# Altium schematic symbol library 3D_MIG_Controller.SCHLIB: 528 symbols (part 5 of 6)
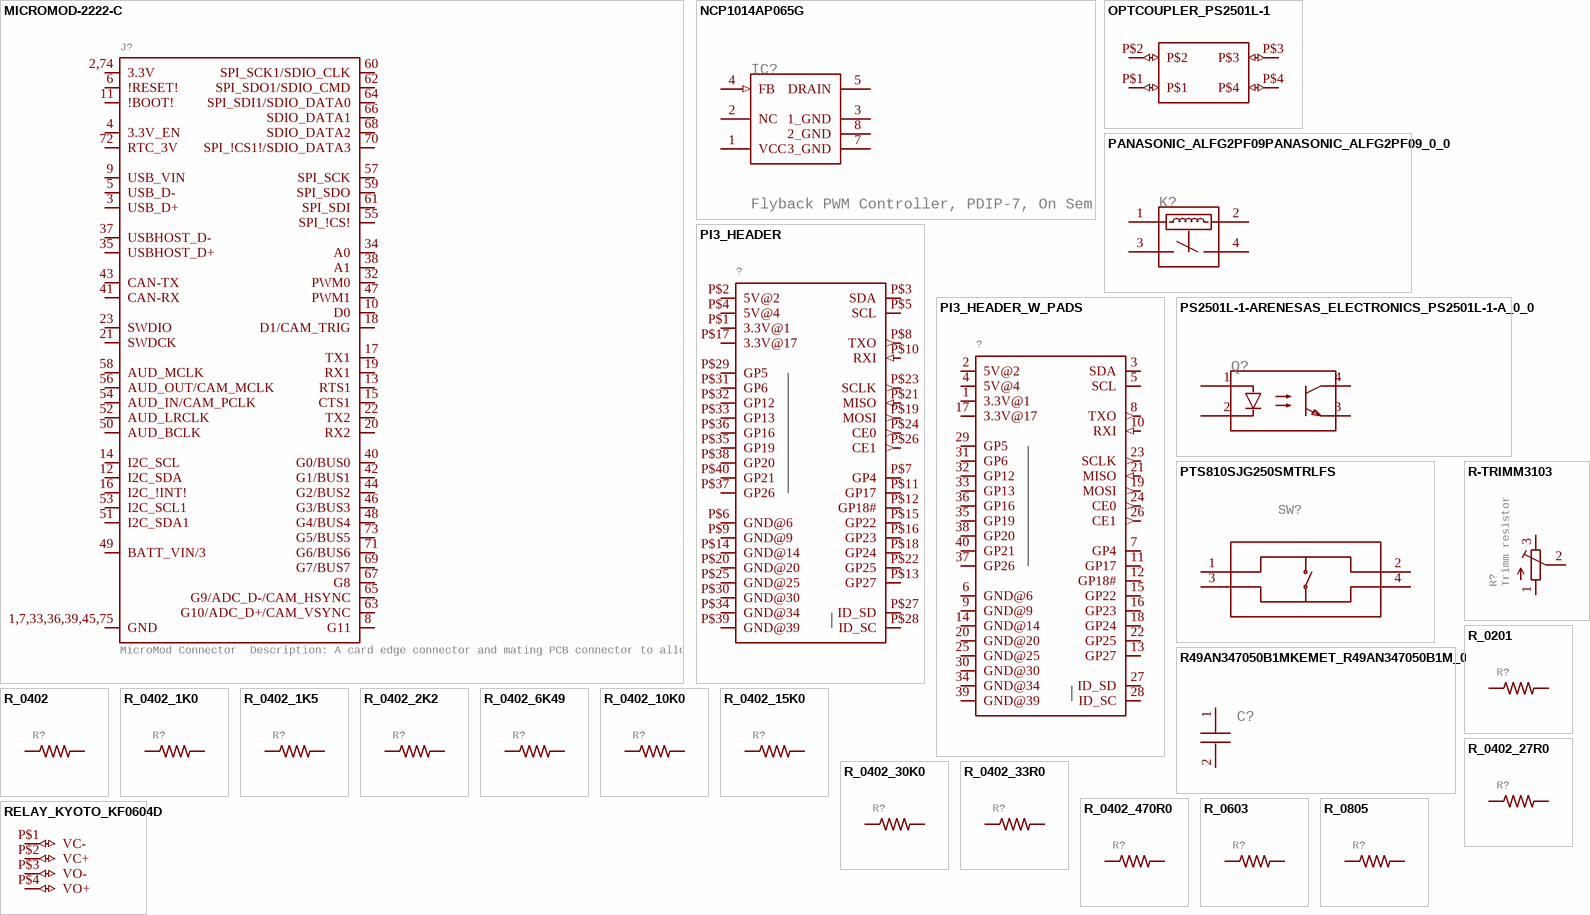
[diagram p36: symbols MICROMOD-2222-C to RELAY_KYOTO_KF0604D]

## PS2501L-1-ARENESAS_ELECTRONICS_PS2501L-1-A_0_0
designator Q?, comment Optocoupler DC-IN 1-CH Transistor DC-OUT 4-Pin PDIP SMD Magazine  (value not drawn)
GateName_1: G$0; SymbolName_1: OPTOCOUPLER_PS2501L; DeviceName: RENESAS_ELECTRONICS_PS2501L-1-A_0_0; DeviceSetName: PS2501L-1-A; AMBIENT_TEMPERATURE_RANGE_HIGH: +100°C; AMBIENT_TEMPERATURE_RANGE_LOW: -55°C; CENTROID_NOT_SPECIFIED: No; COLLECTOR_EMITTER_SATURATION_VOLTAGE: 0.3V; CURRENT_TRANSFER_RATIO: 300%; DEVICE_CLASS_L1: Optoelectronics; DEVICE_CLASS_L2: Optocouplers; DEVICE_CLASS_L3: unset; FORWARD_CURRENT: 10mA; FORWARD_VOLTAGE: 1.17V; ISOLATION_VOLTAGE: 5000V; LEAD_FREE: yes; MF: Renesas Electronics; MFG_PACKAGE_IDENT_REV: 0; PREFIX: Q; STANDOFF_HEIGHT: 0.05mm; VERIFICATION_VERSION: 0.0.0.1; LibraryName: 3D_MIG_Controller; Package: PS2501L-1-A; DATASHEET: https://www.renesas.com/eu/en/doc/YOUSYS/document/002/PN10225EJ05V0DS.pdf; DIGIKEY_DESCRIPTION: TRANS OPTOISOLATOR 5KV TRANS 4SMD; DIGIKEY_PART_NUMBER: 559-1003-ND; FOOTPRINT_URL: http://www.cel.com/pdf/productnotes/pn2009.pdf; HEIGHT: 4mm; MFG_PACKAGE_IDENT: PS2501L-1-A; MFG_PACKAGE_IDENT_DATE: 0; MOUSER_PART_NUMBER: 551-PS2501L-1-A; MPN: PS2501L-1-A; PACKAGE: SMD4; ROHS: yes; TEMPERATURE_RANGE_HIGH: +100°C; TEMPERATURE_RANGE_LOW: -55°C
footprint PS2501L-1-A
pins: 1 ANODE, 2 CATHODE, 3 EMITTER, 4 COLLECTOR

## PTS810SJG250SMTRLFS
designator SW?
GateName_1: A; SymbolName_1: SW_1SW_4P_2; DeviceSetName: PTS810SJG250SMTRLFS; BUILT_BY: EMA_Cory; VENDOR: C&K; LibraryName: 3D_MIG_Controller; Package: PTS810; COPYRIGHT: Copyright (C) 2018 Accelerated Designs. All rights reserved; DATASHEET: https://www.ckswitches.com/products/tactile/PTS810/#PTS810SJG250SMTRLFS; MANUFACTURER_PART_NUMBER: PTS810SJG250SMTRLFS
footprint PTS810
pins: 1, 2, 3, 4

## R49AN347050B1MKEMET_R49AN347050B1M_0_0
designator C?, comment 0.47ÂµF X Cap 330V 800V Polypropylene (PP), Metallized Radial  (value not drawn)
GateName_1: G$0; SymbolName_1: KEMET_R49AN347050B1M_0_0; DeviceSetName: R49AN347050B1M; CAPACITANCE: 0.47uF; CENTROID_NOT_SPECIFIED: No; DEVICE_CLASS_L1: Passive Components; DEVICE_CLASS_L2: Capacitors; DEVICE_CLASS_L3: Film Capacitors; LEAD_FREE: Yes; MF: Kemet; MFG_PACKAGE_IDENT: 0; PREFIX: C; TEMPERATURE_RANGE_HIGH: +110°C; TEMPERATURE_RANGE_LOW: -40°C; TOLERANCE: 20%; VAC_X_RATING: X1; VERIFICATION_VERSION: 0.0.0.3; DeviceName: KEMET_R49AN347050B1M_0_0; LibraryName: 3D_MIG_Controller; Package: KEMET_R49AN347050B1M_0; AUTOMOTIVE: No; DATASHEET: https://content.kemet.com/datasheets/KEM_F3099_R49_X1_330.pdf; DIGIKEY_DESCRIPTION: R49, FILM, METALLIZED POLYPROPYL; DIGIKEY_PART_NUMBER: 399-R49AN347050B1M-ND; FOOTPRINT_VARIANT_NAME_0: Recommended_Land_Pattern; HEIGHT: 18.61mm; MATERIAL: Polypropylene; MFG_PACKAGE_IDENT_DATE: 0; MFG_PACKAGE_IDENT_REV: 0; MOUSER_PART_NUMBER: 80-R49AN347050B1M; MPN: R49AN347050B1M; PACKAGE: RADIAL; ROHS: Yes; VOLTAGE_AC_RATING_X: 330V; VOLTAGE_RATING: 800V
footprint KEMET_R49AN347050B1M_0
pins: 1, 2

## R-TRIMM3103
designator R?, comment Trimm resistor
GateName_1: G$1; SymbolName_1: R-TRIM-1; DeviceName: 3103; DeviceSetName: R-TRIMM; LibraryName: 3D_MIG_Controller; Package: RTRIM3103
footprint RTRIM3103
pins: 1 A, 2 S, 3 E

## R_0201
designator R?
GateName_1: G$1; SymbolName_1: R-US; DeviceSetName: R_0201; LibraryName: 3D_MIG_Controller; Package: 0201
footprint 0201
pins: P$1 1, P$2 2

## R_0402
designator R?
GateName_1: G$1; SymbolName_1: R-US; DeviceSetName: R_0402; LibraryName: 3D_MIG_Controller; Package: 0402
footprint 0402
pins: P$1 1, P$2 2

## R_0402_1K0
designator R?
PARTNO: CRG0402J1K0; GateName_1: G$1; SymbolName_1: R-US; DeviceSetName: R_0402_1K0; LibraryName: 3D_MIG_Controller; Package: 0402
footprint 0402
pins: P$1 1, P$2 2

## R_0402_1K5
designator R?
PARTNO: RMCF0402JT1K50; GateName_1: G$1; SymbolName_1: R-US; DeviceSetName: R_0402_1K5; LibraryName: 3D_MIG_Controller; Package: 0402
footprint 0402
pins: P$1 1, P$2 2

## R_0402_2K2
designator R?
PARTNO: RMCF0402JT2K20; GateName_1: G$1; SymbolName_1: R-US; DeviceSetName: R_0402_2K2; LibraryName: 3D_MIG_Controller; Package: 0402
footprint 0402
pins: P$1 1, P$2 2

## R_0402_6K49
designator R?
PARTNO: RMCF0402FT6K49; GateName_1: G$1; SymbolName_1: R-US; DeviceSetName: R_0402_6K49; LibraryName: 3D_MIG_Controller; Package: 0402
footprint 0402
pins: P$1 1, P$2 2

## R_0402_10K0
designator R?
PARTNO: RMCF0402JT10K0; GateName_1: G$1; SymbolName_1: R-US; DeviceSetName: R_0402_10K0; LibraryName: 3D_MIG_Controller; Package: 0402
footprint 0402
pins: P$1 1, P$2 2

## R_0402_15K0
designator R?
PARTNO: RMCF0402JT15K0; GateName_1: G$1; SymbolName_1: R-US; DeviceSetName: R_0402_15K0; LibraryName: 3D_MIG_Controller; Package: 0402
footprint 0402
pins: P$1 1, P$2 2

## R_0402_27R0
designator R?
PARTNO: RMCF0402JT27R0; GateName_1: G$1; SymbolName_1: R-US; DeviceSetName: R_0402_27R0; LibraryName: 3D_MIG_Controller; Package: 0402
footprint 0402
pins: P$1 1, P$2 2

## R_0402_30K0
designator R?
PARTNO: RC0402JR-0730KL; GateName_1: G$1; SymbolName_1: R-US; DeviceSetName: R_0402_30K0; LibraryName: 3D_MIG_Controller; Package: 0402
footprint 0402
pins: P$1 1, P$2 2

## R_0402_33R0
designator R?
PARTNO: RMCF0402JT33R0; GateName_1: G$1; SymbolName_1: R-US; DeviceSetName: R_0402_33R0; LibraryName: 3D_MIG_Controller; Package: 0402
footprint 0402
pins: P$1 1, P$2 2

## R_0402_470R0
designator R?
PARTNO: RMCF0402JT470R; GateName_1: G$1; SymbolName_1: R-US; DeviceSetName: R_0402_470R0; LibraryName: 3D_MIG_Controller; Package: 0402
footprint 0402
pins: P$1 1, P$2 2

## R_0603
designator R?
GateName_1: G$1; SymbolName_1: R-US; DeviceSetName: R_0603; LibraryName: 3D_MIG_Controller; Package: 0603
footprint 0603
pins: 1, 2

## R_0805
designator R?
GateName_1: G$1; SymbolName_1: R-US; DeviceSetName: R_0805; LibraryName: 3D_MIG_Controller; Package: 0805
footprint 0805
pins: 1, 2

## RELAY_KYOTO_KF0604D
designator ?
GateName_1: G$1; SymbolName_1: RELAY_KYOTO_KF0604D; LibraryName: 3D_MIG_Controller; DeviceSetName: RELAY_KYOTO_KF0604D; Package: RELAY_KYOTO_KF0604D
footprint RELAY_KYOTO_KF0604D
pins: P$1 VC- (io), P$2 VC+ (io), P$3 VO- (io), P$4 VO+ (io)

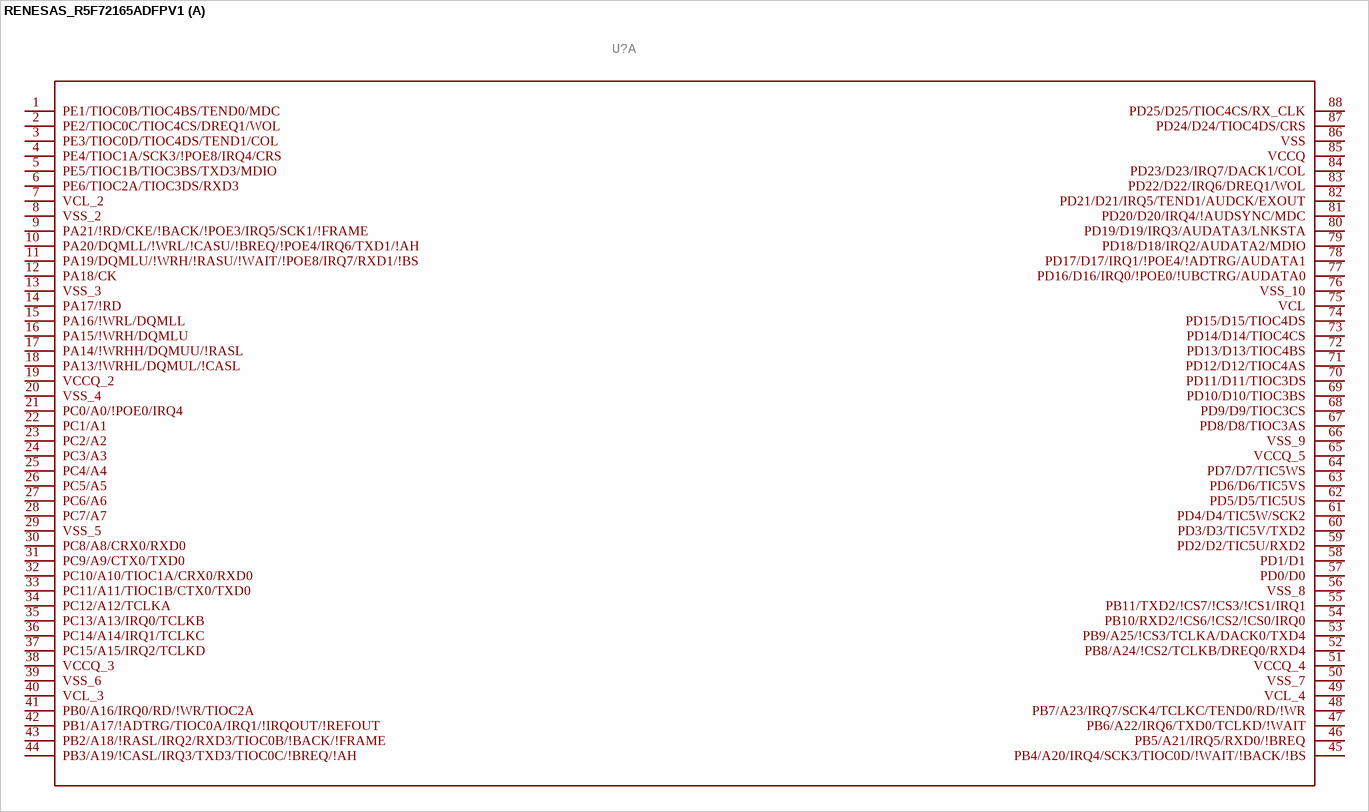
[diagram p16: symbol RENESAS_R5F72165ADFPV1]

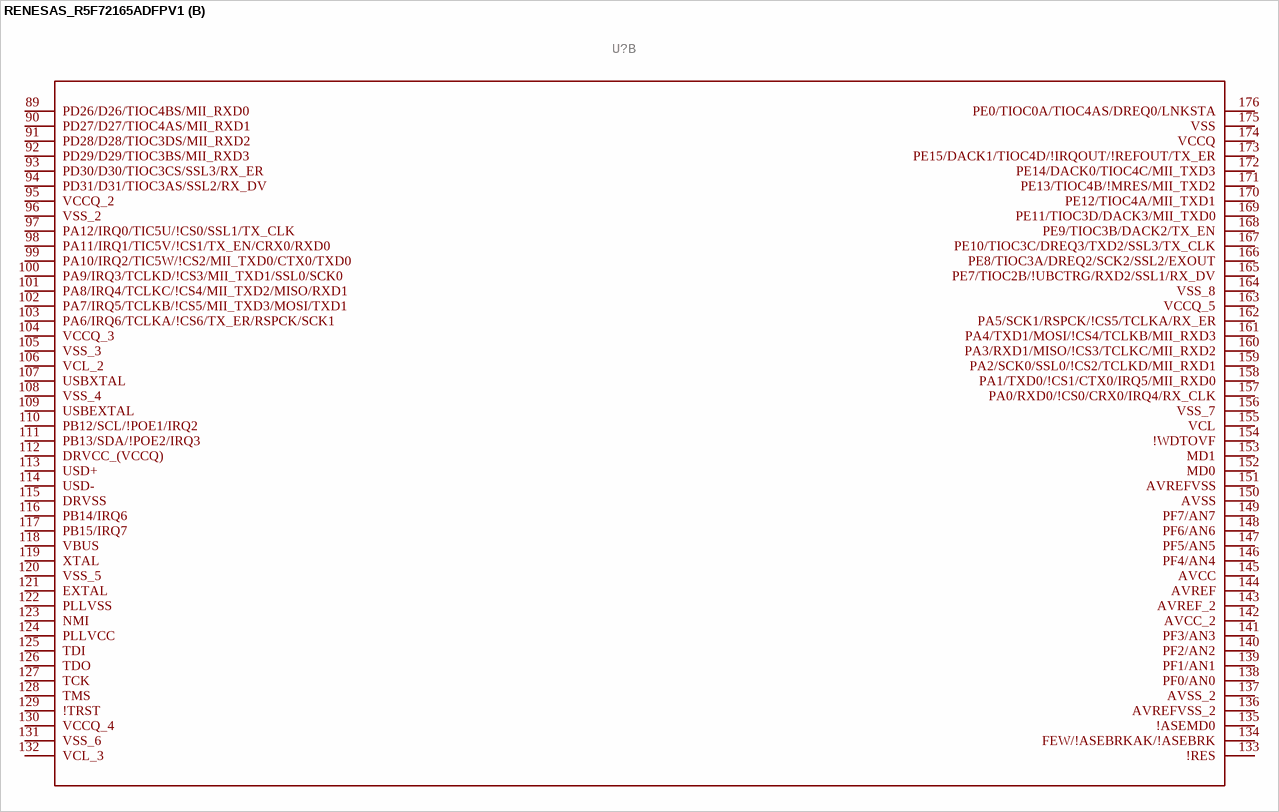
[diagram p17: symbol RENESAS_R5F72165ADFPV1]

## RENESAS_R5F72165ADFPV1
designator U?
MANUFACTURER_PART_NUMBER: R5F72165ADFP#V1; GateName_1: A; SymbolName_1: R5F72165ADFPV1_A; GateName_2: B; SymbolName_2: R5F72165ADFPV1_B; DeviceSetName: RENESAS_R5F72165ADFPV1; VENDOR: Renesas Electronics; LibraryName: 3D_MIG_Controller; Package: LQFP176_24X24
footprint LQFP176_24X24
part A pins: 1 PE1/TIOC0B/TIOC4BS/TEND0/MDC, 2 PE2/TIOC0C/TIOC4CS/DREQ1/WOL, 3 PE3/TIOC0D/TIOC4DS/TEND1/COL, 4 PE4/TIOC1A/SCK3/!POE8/IRQ4/CRS, 5 PE5/TIOC1B/TIOC3BS/TXD3/MDIO, 6 PE6/TIOC2A/TIOC3DS/RXD3, 7 VCL_2 (power), 8 VSS_2 (power), 9 PA21/!RD/CKE/!BACK/!POE3/IRQ5/SCK1/!FRAME, 10 PA20/DQMLL/!WRL/!CASU/!BREQ/!POE4/IRQ6/TXD1/!AH, 11 PA19/DQMLU/!WRH/!RASU/!WAIT/!POE8/IRQ7/RXD1/!BS, 12 PA18/CK, 13 VSS_3 (power), 14 PA17/!RD, 15 PA16/!WRL/DQMLL, 16 PA15/!WRH/DQMLU, 17 PA14/!WRHH/DQMUU/!RASL, 18 PA13/!WRHL/DQMUL/!CASL, 19 VCCQ_2 (power), 20 VSS_4 (power), 21 PC0/A0/!POE0/IRQ4, 22 PC1/A1, 23 PC2/A2, 24 PC3/A3, 25 PC4/A4, 26 PC5/A5, 27 PC6/A6, 28 PC7/A7, 29 VSS_5 (power), 30 PC8/A8/CRX0/RXD0, 31 PC9/A9/CTX0/TXD0, 32 PC10/A10/TIOC1A/CRX0/RXD0, 33 PC11/A11/TIOC1B/CTX0/TXD0, 34 PC12/A12/TCLKA, 35 PC13/A13/IRQ0/TCLKB, 36 PC14/A14/IRQ1/TCLKC, 37 PC15/A15/IRQ2/TCLKD, 38 VCCQ_3 (power), 39 VSS_6 (power), 40 VCL_3 (power), 41 PB0/A16/IRQ0/RD/!WR/TIOC2A, 42 PB1/A17/!ADTRG/TIOC0A/IRQ1/!IRQOUT/!REFOUT, 43 PB2/A18/!RASL/IRQ2/RXD3/TIOC0B/!BACK/!FRAME, 44 PB3/A19/!CASL/IRQ3/TXD3/TIOC0C/!BREQ/!AH, 45 PB4/A20/IRQ4/SCK3/TIOC0D/!WAIT/!BACK/!BS, 46 PB5/A21/IRQ5/RXD0/!BREQ, 47 PB6/A22/IRQ6/TXD0/TCLKD/!WAIT, 48 PB7/A23/IRQ7/SCK4/TCLKC/TEND0/RD/!WR, 49 VCL_4 (power), 50 VSS_7 (power), 51 VCCQ_4 (power), 52 PB8/A24/!CS2/TCLKB/DREQ0/RXD4, 53 PB9/A25/!CS3/TCLKA/DACK0/TXD4, 54 PB10/RXD2/!CS6/!CS2/!CS0/IRQ0, 55 PB11/TXD2/!CS7/!CS3/!CS1/IRQ1, 56 VSS_8 (power), 57 PD0/D0, 58 PD1/D1, 59 PD2/D2/TIC5U/RXD2, 60 PD3/D3/TIC5V/TXD2, 61 PD4/D4/TIC5W/SCK2, 62 PD5/D5/TIC5US, 63 PD6/D6/TIC5VS, 64 PD7/D7/TIC5WS, 65 VCCQ_5 (power), 66 VSS_9 (power), 67 PD8/D8/TIOC3AS, 68 PD9/D9/TIOC3CS, 69 PD10/D10/TIOC3BS, 70 PD11/D11/TIOC3DS, 71 PD12/D12/TIOC4AS, 72 PD13/D13/TIOC4BS, 73 PD14/D14/TIOC4CS, 74 PD15/D15/TIOC4DS, 75 VCL (power), 76 VSS_10 (power), 77 PD16/D16/IRQ0/!POE0/!UBCTRG/AUDATA0, 78 PD17/D17/IRQ1/!POE4/!ADTRG/AUDATA1, 79 PD18/D18/IRQ2/AUDATA2/MDIO, 80 PD19/D19/IRQ3/AUDATA3/LNKSTA, 81 PD20/D20/IRQ4/!AUDSYNC/MDC, 82 PD21/D21/IRQ5/TEND1/AUDCK/EXOUT, 83 PD22/D22/IRQ6/DREQ1/WOL, 84 PD23/D23/IRQ7/DACK1/COL, 85 VCCQ (power), 86 VSS (power), 87 PD24/D24/TIOC4DS/CRS, 88 PD25/D25/TIOC4CS/RX_CLK
part B pins: 89 PD26/D26/TIOC4BS/MII_RXD0, 90 PD27/D27/TIOC4AS/MII_RXD1, 91 PD28/D28/TIOC3DS/MII_RXD2, 92 PD29/D29/TIOC3BS/MII_RXD3, 93 PD30/D30/TIOC3CS/SSL3/RX_ER, 94 PD31/D31/TIOC3AS/SSL2/RX_DV, 95 VCCQ_2 (power), 96 VSS_2 (power), 97 PA12/IRQ0/TIC5U/!CS0/SSL1/TX_CLK, 98 PA11/IRQ1/TIC5V/!CS1/TX_EN/CRX0/RXD0, 99 PA10/IRQ2/TIC5W/!CS2/MII_TXD0/CTX0/TXD0, 100 PA9/IRQ3/TCLKD/!CS3/MII_TXD1/SSL0/SCK0, 101 PA8/IRQ4/TCLKC/!CS4/MII_TXD2/MISO/RXD1, 102 PA7/IRQ5/TCLKB/!CS5/MII_TXD3/MOSI/TXD1, 103 PA6/IRQ6/TCLKA/!CS6/TX_ER/RSPCK/SCK1, 104 VCCQ_3 (power), 105 VSS_3 (power), 106 VCL_2 (power), 107 USBXTAL, 108 VSS_4 (power), 109 USBEXTAL, 110 PB12/SCL/!POE1/IRQ2, 111 PB13/SDA/!POE2/IRQ3, 112 DRVCC_(VCCQ) (power), 113 USD+, 114 USD-, 115 DRVSS (power), 116 PB14/IRQ6, 117 PB15/IRQ7, 118 VBUS (power), 119 XTAL, 120 VSS_5 (power), 121 EXTAL, 122 PLLVSS (power), 123 NMI, 124 PLLVCC (power), 125 TDI, 126 TDO, 127 TCK, 128 TMS, 129 !TRST, 130 VCCQ_4 (power), 131 VSS_6 (power), 132 VCL_3 (power), 133 !RES, 134 FEW/!ASEBRKAK/!ASEBRK, 135 !ASEMD0, 136 AVREFVSS_2 (power), 137 AVSS_2 (power), 138 PF0/AN0, 139 PF1/AN1, 140 PF2/AN2, 141 PF3/AN3, 142 AVCC_2 (power), 143 AVREF_2 (power), 144 AVREF (power), 145 AVCC (power), 146 PF4/AN4, 147 PF5/AN5, 148 PF6/AN6, 149 PF7/AN7, 150 AVSS (power), 151 AVREFVSS (power), 152 MD0, 153 MD1, 154 !WDTOVF, 155 VCL (power), 156 VSS_7 (power), 157 PA0/RXD0/!CS0/CRX0/IRQ4/RX_CLK, 158 PA1/TXD0/!CS1/CTX0/IRQ5/MII_RXD0, 159 PA2/SCK0/SSL0/!CS2/TCLKD/MII_RXD1, 160 PA3/RXD1/MISO/!CS3/TCLKC/MII_RXD2, 161 PA4/TXD1/MOSI/!CS4/TCLKB/MII_RXD3, 162 PA5/SCK1/RSPCK/!CS5/TCLKA/RX_ER, 163 VCCQ_5 (power), 164 VSS_8 (power), 165 PE7/TIOC2B/!UBCTRG/RXD2/SSL1/RX_DV, 166 PE8/TIOC3A/DREQ2/SCK2/SSL2/EXOUT, 167 PE10/TIOC3C/DREQ3/TXD2/SSL3/TX_CLK, 168 PE9/TIOC3B/DACK2/TX_EN, 169 PE11/TIOC3D/DACK3/MII_TXD0, 170 PE12/TIOC4A/MII_TXD1, 171 PE13/TIOC4B/!MRES/MII_TXD2, 172 PE14/DACK0/TIOC4C/MII_TXD3, 173 PE15/DACK1/TIOC4D/!IRQOUT/!REFOUT/TX_ER, 174 VCCQ (power), 175 VSS (power), 176 PE0/TIOC0A/TIOC4AS/DREQ0/LNKSTA

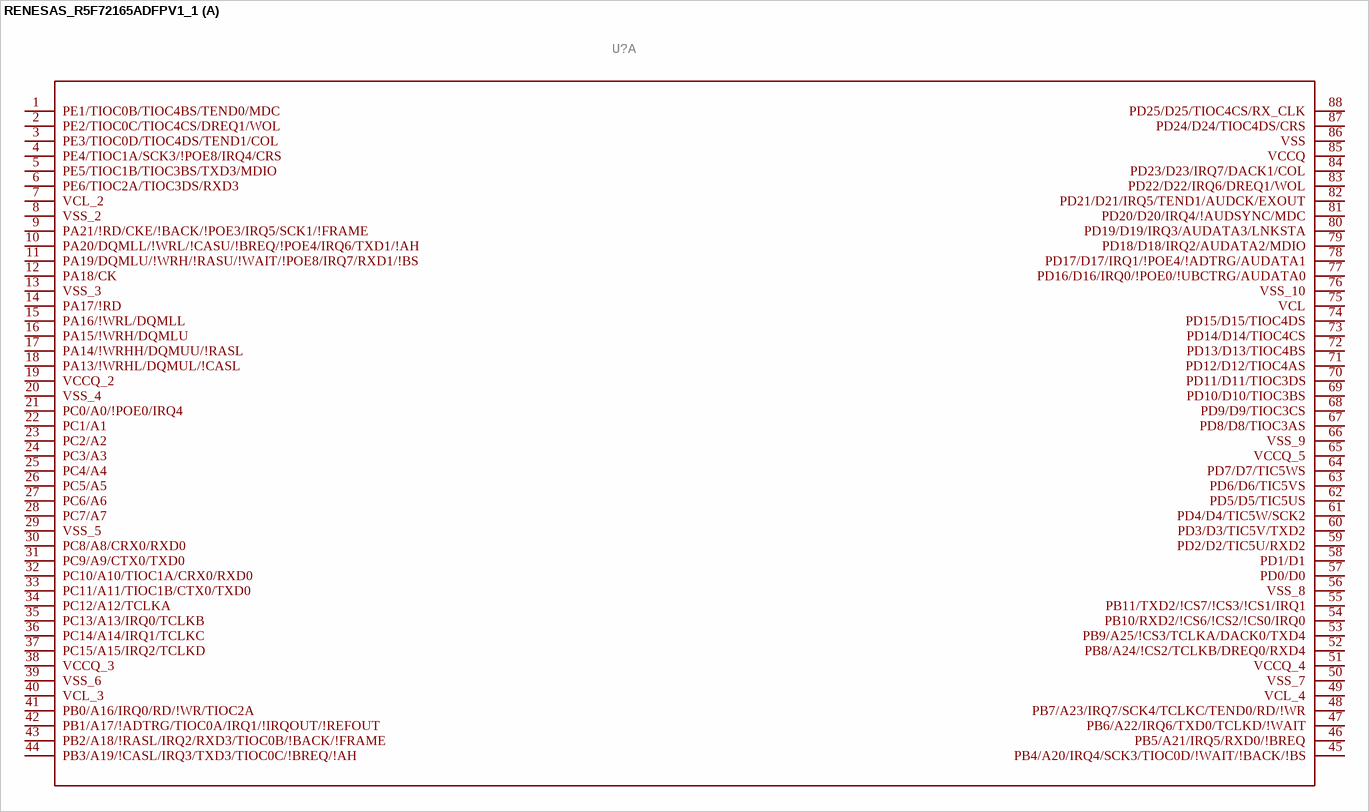
[diagram p18: symbol RENESAS_R5F72165ADFPV1_1]

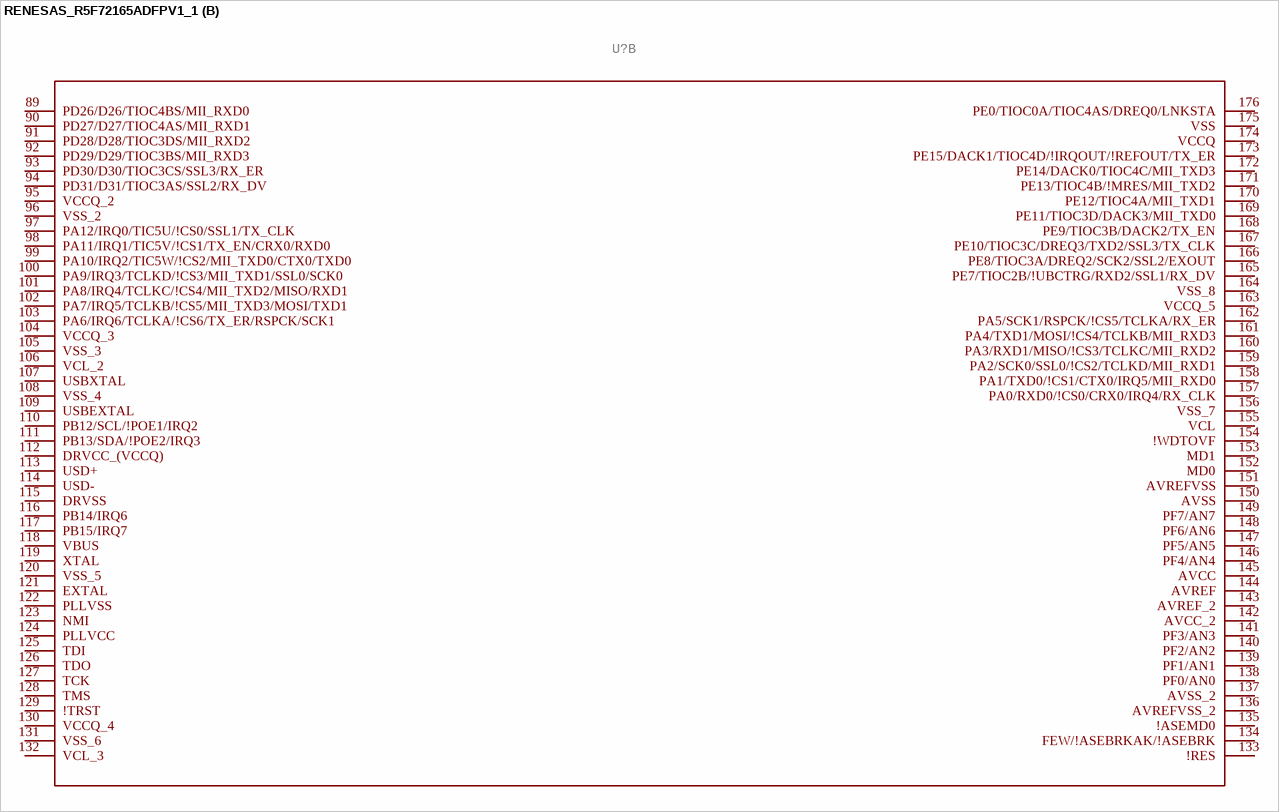
[diagram p19: symbol RENESAS_R5F72165ADFPV1_1]

## RENESAS_R5F72165ADFPV1_1
designator U?
MANUFACTURER_PART_NUMBER: R5F72165ADFP#V1; GateName_1: A; SymbolName_1: R5F72165ADFPV1_A; GateName_2: B; SymbolName_2: R5F72165ADFPV1_B; DeviceSetName: RENESAS_R5F72165ADFPV1; VENDOR: Renesas Electronics; LibraryName: 3D_MIG_Controller; Package: LQFP176_24X24
footprint LQFP176_24X24
part A pins: 1 PE1/TIOC0B/TIOC4BS/TEND0/MDC, 2 PE2/TIOC0C/TIOC4CS/DREQ1/WOL, 3 PE3/TIOC0D/TIOC4DS/TEND1/COL, 4 PE4/TIOC1A/SCK3/!POE8/IRQ4/CRS, 5 PE5/TIOC1B/TIOC3BS/TXD3/MDIO, 6 PE6/TIOC2A/TIOC3DS/RXD3, 7 VCL_2 (power), 8 VSS_2 (power), 9 PA21/!RD/CKE/!BACK/!POE3/IRQ5/SCK1/!FRAME, 10 PA20/DQMLL/!WRL/!CASU/!BREQ/!POE4/IRQ6/TXD1/!AH, 11 PA19/DQMLU/!WRH/!RASU/!WAIT/!POE8/IRQ7/RXD1/!BS, 12 PA18/CK, 13 VSS_3 (power), 14 PA17/!RD, 15 PA16/!WRL/DQMLL, 16 PA15/!WRH/DQMLU, 17 PA14/!WRHH/DQMUU/!RASL, 18 PA13/!WRHL/DQMUL/!CASL, 19 VCCQ_2 (power), 20 VSS_4 (power), 21 PC0/A0/!POE0/IRQ4, 22 PC1/A1, 23 PC2/A2, 24 PC3/A3, 25 PC4/A4, 26 PC5/A5, 27 PC6/A6, 28 PC7/A7, 29 VSS_5 (power), 30 PC8/A8/CRX0/RXD0, 31 PC9/A9/CTX0/TXD0, 32 PC10/A10/TIOC1A/CRX0/RXD0, 33 PC11/A11/TIOC1B/CTX0/TXD0, 34 PC12/A12/TCLKA, 35 PC13/A13/IRQ0/TCLKB, 36 PC14/A14/IRQ1/TCLKC, 37 PC15/A15/IRQ2/TCLKD, 38 VCCQ_3 (power), 39 VSS_6 (power), 40 VCL_3 (power), 41 PB0/A16/IRQ0/RD/!WR/TIOC2A, 42 PB1/A17/!ADTRG/TIOC0A/IRQ1/!IRQOUT/!REFOUT, 43 PB2/A18/!RASL/IRQ2/RXD3/TIOC0B/!BACK/!FRAME, 44 PB3/A19/!CASL/IRQ3/TXD3/TIOC0C/!BREQ/!AH, 45 PB4/A20/IRQ4/SCK3/TIOC0D/!WAIT/!BACK/!BS, 46 PB5/A21/IRQ5/RXD0/!BREQ, 47 PB6/A22/IRQ6/TXD0/TCLKD/!WAIT, 48 PB7/A23/IRQ7/SCK4/TCLKC/TEND0/RD/!WR, 49 VCL_4 (power), 50 VSS_7 (power), 51 VCCQ_4 (power), 52 PB8/A24/!CS2/TCLKB/DREQ0/RXD4, 53 PB9/A25/!CS3/TCLKA/DACK0/TXD4, 54 PB10/RXD2/!CS6/!CS2/!CS0/IRQ0, 55 PB11/TXD2/!CS7/!CS3/!CS1/IRQ1, 56 VSS_8 (power), 57 PD0/D0, 58 PD1/D1, 59 PD2/D2/TIC5U/RXD2, 60 PD3/D3/TIC5V/TXD2, 61 PD4/D4/TIC5W/SCK2, 62 PD5/D5/TIC5US, 63 PD6/D6/TIC5VS, 64 PD7/D7/TIC5WS, 65 VCCQ_5 (power), 66 VSS_9 (power), 67 PD8/D8/TIOC3AS, 68 PD9/D9/TIOC3CS, 69 PD10/D10/TIOC3BS, 70 PD11/D11/TIOC3DS, 71 PD12/D12/TIOC4AS, 72 PD13/D13/TIOC4BS, 73 PD14/D14/TIOC4CS, 74 PD15/D15/TIOC4DS, 75 VCL (power), 76 VSS_10 (power), 77 PD16/D16/IRQ0/!POE0/!UBCTRG/AUDATA0, 78 PD17/D17/IRQ1/!POE4/!ADTRG/AUDATA1, 79 PD18/D18/IRQ2/AUDATA2/MDIO, 80 PD19/D19/IRQ3/AUDATA3/LNKSTA, 81 PD20/D20/IRQ4/!AUDSYNC/MDC, 82 PD21/D21/IRQ5/TEND1/AUDCK/EXOUT, 83 PD22/D22/IRQ6/DREQ1/WOL, 84 PD23/D23/IRQ7/DACK1/COL, 85 VCCQ (power), 86 VSS (power), 87 PD24/D24/TIOC4DS/CRS, 88 PD25/D25/TIOC4CS/RX_CLK
part B pins: 89 PD26/D26/TIOC4BS/MII_RXD0, 90 PD27/D27/TIOC4AS/MII_RXD1, 91 PD28/D28/TIOC3DS/MII_RXD2, 92 PD29/D29/TIOC3BS/MII_RXD3, 93 PD30/D30/TIOC3CS/SSL3/RX_ER, 94 PD31/D31/TIOC3AS/SSL2/RX_DV, 95 VCCQ_2 (power), 96 VSS_2 (power), 97 PA12/IRQ0/TIC5U/!CS0/SSL1/TX_CLK, 98 PA11/IRQ1/TIC5V/!CS1/TX_EN/CRX0/RXD0, 99 PA10/IRQ2/TIC5W/!CS2/MII_TXD0/CTX0/TXD0, 100 PA9/IRQ3/TCLKD/!CS3/MII_TXD1/SSL0/SCK0, 101 PA8/IRQ4/TCLKC/!CS4/MII_TXD2/MISO/RXD1, 102 PA7/IRQ5/TCLKB/!CS5/MII_TXD3/MOSI/TXD1, 103 PA6/IRQ6/TCLKA/!CS6/TX_ER/RSPCK/SCK1, 104 VCCQ_3 (power), 105 VSS_3 (power), 106 VCL_2 (power), 107 USBXTAL, 108 VSS_4 (power), 109 USBEXTAL, 110 PB12/SCL/!POE1/IRQ2, 111 PB13/SDA/!POE2/IRQ3, 112 DRVCC_(VCCQ) (power), 113 USD+, 114 USD-, 115 DRVSS (power), 116 PB14/IRQ6, 117 PB15/IRQ7, 118 VBUS (power), 119 XTAL, 120 VSS_5 (power), 121 EXTAL, 122 PLLVSS (power), 123 NMI, 124 PLLVCC (power), 125 TDI, 126 TDO, 127 TCK, 128 TMS, 129 !TRST, 130 VCCQ_4 (power), 131 VSS_6 (power), 132 VCL_3 (power), 133 !RES, 134 FEW/!ASEBRKAK/!ASEBRK, 135 !ASEMD0, 136 AVREFVSS_2 (power), 137 AVSS_2 (power), 138 PF0/AN0, 139 PF1/AN1, 140 PF2/AN2, 141 PF3/AN3, 142 AVCC_2 (power), 143 AVREF_2 (power), 144 AVREF (power), 145 AVCC (power), 146 PF4/AN4, 147 PF5/AN5, 148 PF6/AN6, 149 PF7/AN7, 150 AVSS (power), 151 AVREFVSS (power), 152 MD0, 153 MD1, 154 !WDTOVF, 155 VCL (power), 156 VSS_7 (power), 157 PA0/RXD0/!CS0/CRX0/IRQ4/RX_CLK, 158 PA1/TXD0/!CS1/CTX0/IRQ5/MII_RXD0, 159 PA2/SCK0/SSL0/!CS2/TCLKD/MII_RXD1, 160 PA3/RXD1/MISO/!CS3/TCLKC/MII_RXD2, 161 PA4/TXD1/MOSI/!CS4/TCLKB/MII_RXD3, 162 PA5/SCK1/RSPCK/!CS5/TCLKA/RX_ER, 163 VCCQ_5 (power), 164 VSS_8 (power), 165 PE7/TIOC2B/!UBCTRG/RXD2/SSL1/RX_DV, 166 PE8/TIOC3A/DREQ2/SCK2/SSL2/EXOUT, 167 PE10/TIOC3C/DREQ3/TXD2/SSL3/TX_CLK, 168 PE9/TIOC3B/DACK2/TX_EN, 169 PE11/TIOC3D/DACK3/MII_TXD0, 170 PE12/TIOC4A/MII_TXD1, 171 PE13/TIOC4B/!MRES/MII_TXD2, 172 PE14/DACK0/TIOC4C/MII_TXD3, 173 PE15/DACK1/TIOC4D/!IRQOUT/!REFOUT/TX_ER, 174 VCCQ (power), 175 VSS (power), 176 PE0/TIOC0A/TIOC4AS/DREQ0/LNKSTA

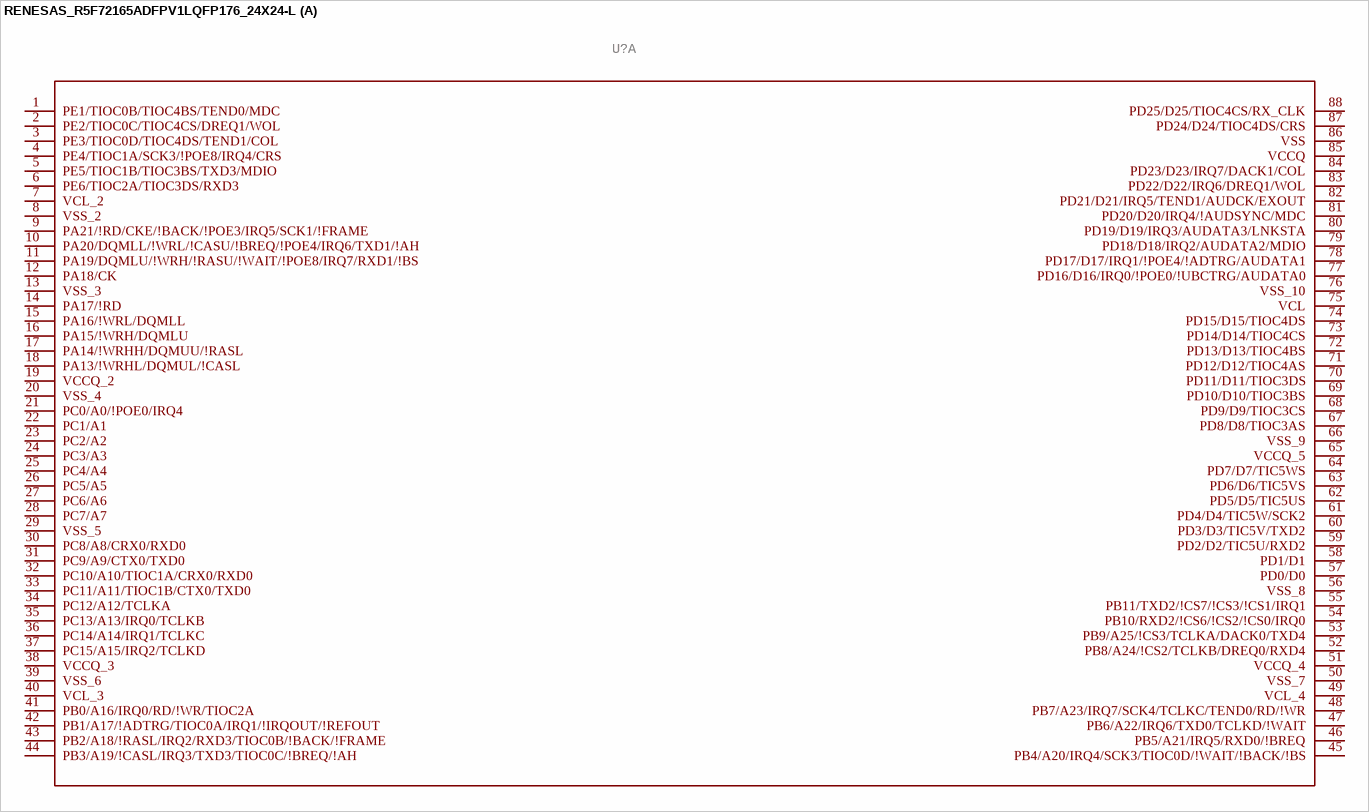
[diagram p20: symbol RENESAS_R5F72165ADFPV1LQFP176_24X24-L]

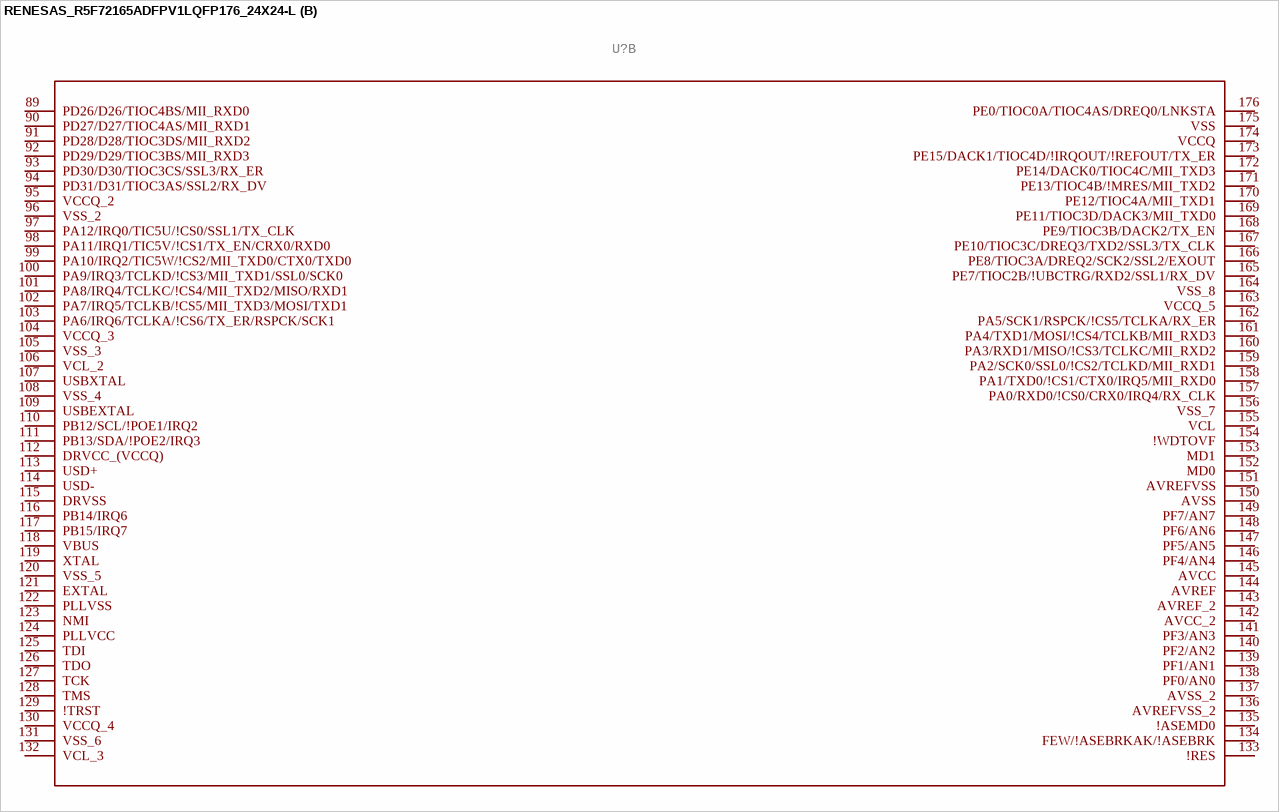
[diagram p21: symbol RENESAS_R5F72165ADFPV1LQFP176_24X24-L]

## RENESAS_R5F72165ADFPV1LQFP176_24X24-L
designator U?
MANUFACTURER_PART_NUMBER: R5F72165ADFP#V1; GateName_1: A; SymbolName_1: R5F72165ADFPV1_A; GateName_2: B; SymbolName_2: R5F72165ADFPV1_B; DeviceName: LQFP176_24X24-L; DeviceSetName: RENESAS_R5F72165ADFPV1; VENDOR: Renesas Electronics; LibraryName: 3D_MIG_Controller; Package: LQFP176_24X24-L
footprint LQFP176_24X24-L
part A pins: 1 PE1/TIOC0B/TIOC4BS/TEND0/MDC, 2 PE2/TIOC0C/TIOC4CS/DREQ1/WOL, 3 PE3/TIOC0D/TIOC4DS/TEND1/COL, 4 PE4/TIOC1A/SCK3/!POE8/IRQ4/CRS, 5 PE5/TIOC1B/TIOC3BS/TXD3/MDIO, 6 PE6/TIOC2A/TIOC3DS/RXD3, 7 VCL_2 (power), 8 VSS_2 (power), 9 PA21/!RD/CKE/!BACK/!POE3/IRQ5/SCK1/!FRAME, 10 PA20/DQMLL/!WRL/!CASU/!BREQ/!POE4/IRQ6/TXD1/!AH, 11 PA19/DQMLU/!WRH/!RASU/!WAIT/!POE8/IRQ7/RXD1/!BS, 12 PA18/CK, 13 VSS_3 (power), 14 PA17/!RD, 15 PA16/!WRL/DQMLL, 16 PA15/!WRH/DQMLU, 17 PA14/!WRHH/DQMUU/!RASL, 18 PA13/!WRHL/DQMUL/!CASL, 19 VCCQ_2 (power), 20 VSS_4 (power), 21 PC0/A0/!POE0/IRQ4, 22 PC1/A1, 23 PC2/A2, 24 PC3/A3, 25 PC4/A4, 26 PC5/A5, 27 PC6/A6, 28 PC7/A7, 29 VSS_5 (power), 30 PC8/A8/CRX0/RXD0, 31 PC9/A9/CTX0/TXD0, 32 PC10/A10/TIOC1A/CRX0/RXD0, 33 PC11/A11/TIOC1B/CTX0/TXD0, 34 PC12/A12/TCLKA, 35 PC13/A13/IRQ0/TCLKB, 36 PC14/A14/IRQ1/TCLKC, 37 PC15/A15/IRQ2/TCLKD, 38 VCCQ_3 (power), 39 VSS_6 (power), 40 VCL_3 (power), 41 PB0/A16/IRQ0/RD/!WR/TIOC2A, 42 PB1/A17/!ADTRG/TIOC0A/IRQ1/!IRQOUT/!REFOUT, 43 PB2/A18/!RASL/IRQ2/RXD3/TIOC0B/!BACK/!FRAME, 44 PB3/A19/!CASL/IRQ3/TXD3/TIOC0C/!BREQ/!AH, 45 PB4/A20/IRQ4/SCK3/TIOC0D/!WAIT/!BACK/!BS, 46 PB5/A21/IRQ5/RXD0/!BREQ, 47 PB6/A22/IRQ6/TXD0/TCLKD/!WAIT, 48 PB7/A23/IRQ7/SCK4/TCLKC/TEND0/RD/!WR, 49 VCL_4 (power), 50 VSS_7 (power), 51 VCCQ_4 (power), 52 PB8/A24/!CS2/TCLKB/DREQ0/RXD4, 53 PB9/A25/!CS3/TCLKA/DACK0/TXD4, 54 PB10/RXD2/!CS6/!CS2/!CS0/IRQ0, 55 PB11/TXD2/!CS7/!CS3/!CS1/IRQ1, 56 VSS_8 (power), 57 PD0/D0, 58 PD1/D1, 59 PD2/D2/TIC5U/RXD2, 60 PD3/D3/TIC5V/TXD2, 61 PD4/D4/TIC5W/SCK2, 62 PD5/D5/TIC5US, 63 PD6/D6/TIC5VS, 64 PD7/D7/TIC5WS, 65 VCCQ_5 (power), 66 VSS_9 (power), 67 PD8/D8/TIOC3AS, 68 PD9/D9/TIOC3CS, 69 PD10/D10/TIOC3BS, 70 PD11/D11/TIOC3DS, 71 PD12/D12/TIOC4AS, 72 PD13/D13/TIOC4BS, 73 PD14/D14/TIOC4CS, 74 PD15/D15/TIOC4DS, 75 VCL (power), 76 VSS_10 (power), 77 PD16/D16/IRQ0/!POE0/!UBCTRG/AUDATA0, 78 PD17/D17/IRQ1/!POE4/!ADTRG/AUDATA1, 79 PD18/D18/IRQ2/AUDATA2/MDIO, 80 PD19/D19/IRQ3/AUDATA3/LNKSTA, 81 PD20/D20/IRQ4/!AUDSYNC/MDC, 82 PD21/D21/IRQ5/TEND1/AUDCK/EXOUT, 83 PD22/D22/IRQ6/DREQ1/WOL, 84 PD23/D23/IRQ7/DACK1/COL, 85 VCCQ (power), 86 VSS (power), 87 PD24/D24/TIOC4DS/CRS, 88 PD25/D25/TIOC4CS/RX_CLK
part B pins: 89 PD26/D26/TIOC4BS/MII_RXD0, 90 PD27/D27/TIOC4AS/MII_RXD1, 91 PD28/D28/TIOC3DS/MII_RXD2, 92 PD29/D29/TIOC3BS/MII_RXD3, 93 PD30/D30/TIOC3CS/SSL3/RX_ER, 94 PD31/D31/TIOC3AS/SSL2/RX_DV, 95 VCCQ_2 (power), 96 VSS_2 (power), 97 PA12/IRQ0/TIC5U/!CS0/SSL1/TX_CLK, 98 PA11/IRQ1/TIC5V/!CS1/TX_EN/CRX0/RXD0, 99 PA10/IRQ2/TIC5W/!CS2/MII_TXD0/CTX0/TXD0, 100 PA9/IRQ3/TCLKD/!CS3/MII_TXD1/SSL0/SCK0, 101 PA8/IRQ4/TCLKC/!CS4/MII_TXD2/MISO/RXD1, 102 PA7/IRQ5/TCLKB/!CS5/MII_TXD3/MOSI/TXD1, 103 PA6/IRQ6/TCLKA/!CS6/TX_ER/RSPCK/SCK1, 104 VCCQ_3 (power), 105 VSS_3 (power), 106 VCL_2 (power), 107 USBXTAL, 108 VSS_4 (power), 109 USBEXTAL, 110 PB12/SCL/!POE1/IRQ2, 111 PB13/SDA/!POE2/IRQ3, 112 DRVCC_(VCCQ) (power), 113 USD+, 114 USD-, 115 DRVSS (power), 116 PB14/IRQ6, 117 PB15/IRQ7, 118 VBUS (power), 119 XTAL, 120 VSS_5 (power), 121 EXTAL, 122 PLLVSS (power), 123 NMI, 124 PLLVCC (power), 125 TDI, 126 TDO, 127 TCK, 128 TMS, 129 !TRST, 130 VCCQ_4 (power), 131 VSS_6 (power), 132 VCL_3 (power), 133 !RES, 134 FEW/!ASEBRKAK/!ASEBRK, 135 !ASEMD0, 136 AVREFVSS_2 (power), 137 AVSS_2 (power), 138 PF0/AN0, 139 PF1/AN1, 140 PF2/AN2, 141 PF3/AN3, 142 AVCC_2 (power), 143 AVREF_2 (power), 144 AVREF (power), 145 AVCC (power), 146 PF4/AN4, 147 PF5/AN5, 148 PF6/AN6, 149 PF7/AN7, 150 AVSS (power), 151 AVREFVSS (power), 152 MD0, 153 MD1, 154 !WDTOVF, 155 VCL (power), 156 VSS_7 (power), 157 PA0/RXD0/!CS0/CRX0/IRQ4/RX_CLK, 158 PA1/TXD0/!CS1/CTX0/IRQ5/MII_RXD0, 159 PA2/SCK0/SSL0/!CS2/TCLKD/MII_RXD1, 160 PA3/RXD1/MISO/!CS3/TCLKC/MII_RXD2, 161 PA4/TXD1/MOSI/!CS4/TCLKB/MII_RXD3, 162 PA5/SCK1/RSPCK/!CS5/TCLKA/RX_ER, 163 VCCQ_5 (power), 164 VSS_8 (power), 165 PE7/TIOC2B/!UBCTRG/RXD2/SSL1/RX_DV, 166 PE8/TIOC3A/DREQ2/SCK2/SSL2/EXOUT, 167 PE10/TIOC3C/DREQ3/TXD2/SSL3/TX_CLK, 168 PE9/TIOC3B/DACK2/TX_EN, 169 PE11/TIOC3D/DACK3/MII_TXD0, 170 PE12/TIOC4A/MII_TXD1, 171 PE13/TIOC4B/!MRES/MII_TXD2, 172 PE14/DACK0/TIOC4C/MII_TXD3, 173 PE15/DACK1/TIOC4D/!IRQOUT/!REFOUT/TX_ER, 174 VCCQ (power), 175 VSS (power), 176 PE0/TIOC0A/TIOC4AS/DREQ0/LNKSTA

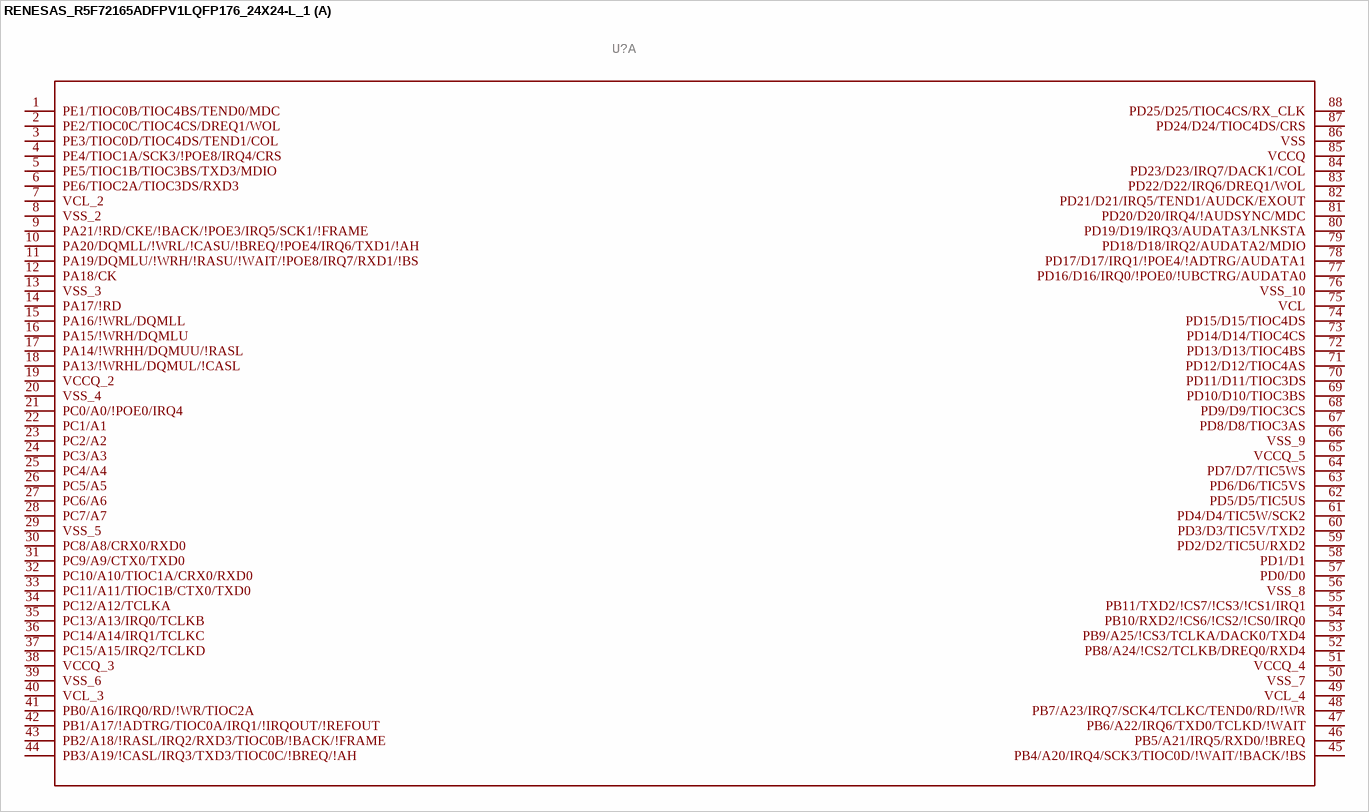
[diagram p22: symbol RENESAS_R5F72165ADFPV1LQFP176_24X24-L_1]

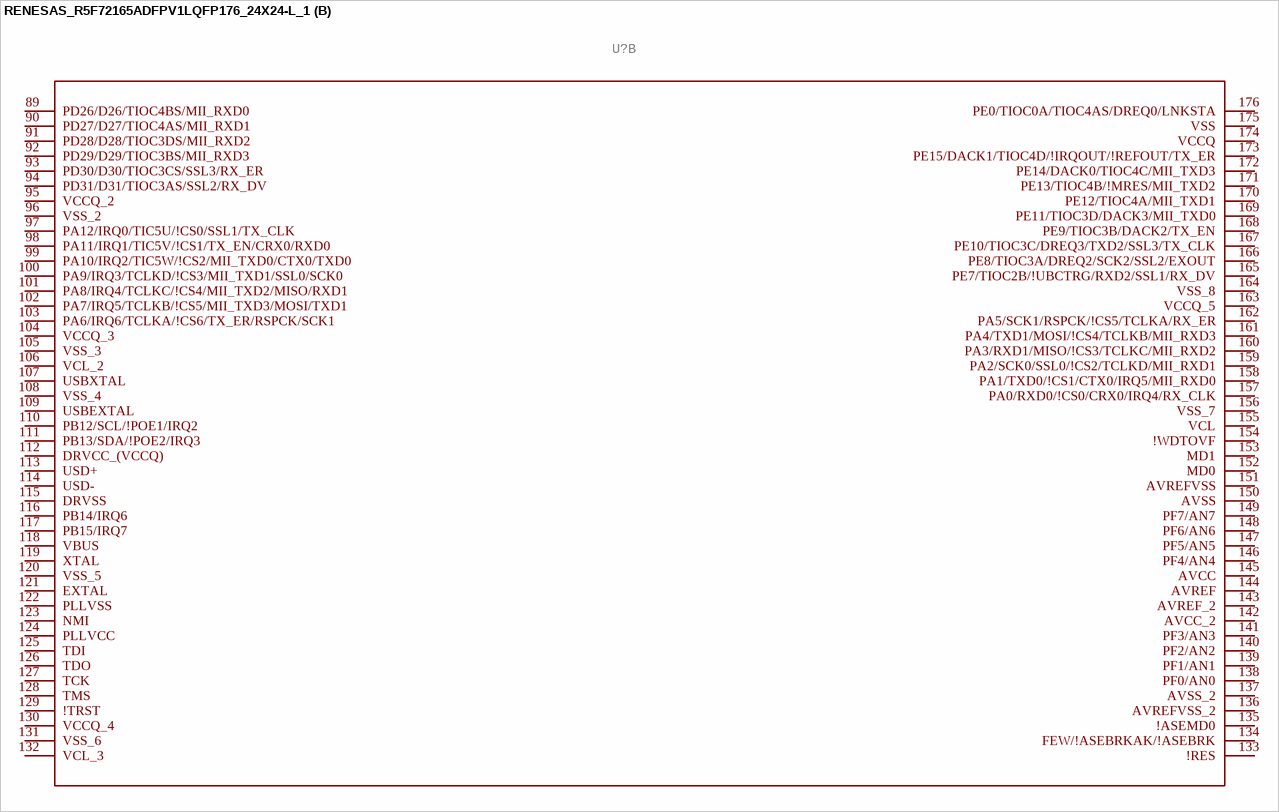
[diagram p23: symbol RENESAS_R5F72165ADFPV1LQFP176_24X24-L_1]

## RENESAS_R5F72165ADFPV1LQFP176_24X24-L_1
designator U?
MANUFACTURER_PART_NUMBER: R5F72165ADFP#V1; GateName_1: A; SymbolName_1: R5F72165ADFPV1_A; GateName_2: B; SymbolName_2: R5F72165ADFPV1_B; DeviceName: LQFP176_24X24-L; DeviceSetName: RENESAS_R5F72165ADFPV1; VENDOR: Renesas Electronics; LibraryName: 3D_MIG_Controller; Package: LQFP176_24X24-L
footprint LQFP176_24X24-L
part A pins: 1 PE1/TIOC0B/TIOC4BS/TEND0/MDC, 2 PE2/TIOC0C/TIOC4CS/DREQ1/WOL, 3 PE3/TIOC0D/TIOC4DS/TEND1/COL, 4 PE4/TIOC1A/SCK3/!POE8/IRQ4/CRS, 5 PE5/TIOC1B/TIOC3BS/TXD3/MDIO, 6 PE6/TIOC2A/TIOC3DS/RXD3, 7 VCL_2 (power), 8 VSS_2 (power), 9 PA21/!RD/CKE/!BACK/!POE3/IRQ5/SCK1/!FRAME, 10 PA20/DQMLL/!WRL/!CASU/!BREQ/!POE4/IRQ6/TXD1/!AH, 11 PA19/DQMLU/!WRH/!RASU/!WAIT/!POE8/IRQ7/RXD1/!BS, 12 PA18/CK, 13 VSS_3 (power), 14 PA17/!RD, 15 PA16/!WRL/DQMLL, 16 PA15/!WRH/DQMLU, 17 PA14/!WRHH/DQMUU/!RASL, 18 PA13/!WRHL/DQMUL/!CASL, 19 VCCQ_2 (power), 20 VSS_4 (power), 21 PC0/A0/!POE0/IRQ4, 22 PC1/A1, 23 PC2/A2, 24 PC3/A3, 25 PC4/A4, 26 PC5/A5, 27 PC6/A6, 28 PC7/A7, 29 VSS_5 (power), 30 PC8/A8/CRX0/RXD0, 31 PC9/A9/CTX0/TXD0, 32 PC10/A10/TIOC1A/CRX0/RXD0, 33 PC11/A11/TIOC1B/CTX0/TXD0, 34 PC12/A12/TCLKA, 35 PC13/A13/IRQ0/TCLKB, 36 PC14/A14/IRQ1/TCLKC, 37 PC15/A15/IRQ2/TCLKD, 38 VCCQ_3 (power), 39 VSS_6 (power), 40 VCL_3 (power), 41 PB0/A16/IRQ0/RD/!WR/TIOC2A, 42 PB1/A17/!ADTRG/TIOC0A/IRQ1/!IRQOUT/!REFOUT, 43 PB2/A18/!RASL/IRQ2/RXD3/TIOC0B/!BACK/!FRAME, 44 PB3/A19/!CASL/IRQ3/TXD3/TIOC0C/!BREQ/!AH, 45 PB4/A20/IRQ4/SCK3/TIOC0D/!WAIT/!BACK/!BS, 46 PB5/A21/IRQ5/RXD0/!BREQ, 47 PB6/A22/IRQ6/TXD0/TCLKD/!WAIT, 48 PB7/A23/IRQ7/SCK4/TCLKC/TEND0/RD/!WR, 49 VCL_4 (power), 50 VSS_7 (power), 51 VCCQ_4 (power), 52 PB8/A24/!CS2/TCLKB/DREQ0/RXD4, 53 PB9/A25/!CS3/TCLKA/DACK0/TXD4, 54 PB10/RXD2/!CS6/!CS2/!CS0/IRQ0, 55 PB11/TXD2/!CS7/!CS3/!CS1/IRQ1, 56 VSS_8 (power), 57 PD0/D0, 58 PD1/D1, 59 PD2/D2/TIC5U/RXD2, 60 PD3/D3/TIC5V/TXD2, 61 PD4/D4/TIC5W/SCK2, 62 PD5/D5/TIC5US, 63 PD6/D6/TIC5VS, 64 PD7/D7/TIC5WS, 65 VCCQ_5 (power), 66 VSS_9 (power), 67 PD8/D8/TIOC3AS, 68 PD9/D9/TIOC3CS, 69 PD10/D10/TIOC3BS, 70 PD11/D11/TIOC3DS, 71 PD12/D12/TIOC4AS, 72 PD13/D13/TIOC4BS, 73 PD14/D14/TIOC4CS, 74 PD15/D15/TIOC4DS, 75 VCL (power), 76 VSS_10 (power), 77 PD16/D16/IRQ0/!POE0/!UBCTRG/AUDATA0, 78 PD17/D17/IRQ1/!POE4/!ADTRG/AUDATA1, 79 PD18/D18/IRQ2/AUDATA2/MDIO, 80 PD19/D19/IRQ3/AUDATA3/LNKSTA, 81 PD20/D20/IRQ4/!AUDSYNC/MDC, 82 PD21/D21/IRQ5/TEND1/AUDCK/EXOUT, 83 PD22/D22/IRQ6/DREQ1/WOL, 84 PD23/D23/IRQ7/DACK1/COL, 85 VCCQ (power), 86 VSS (power), 87 PD24/D24/TIOC4DS/CRS, 88 PD25/D25/TIOC4CS/RX_CLK
part B pins: 89 PD26/D26/TIOC4BS/MII_RXD0, 90 PD27/D27/TIOC4AS/MII_RXD1, 91 PD28/D28/TIOC3DS/MII_RXD2, 92 PD29/D29/TIOC3BS/MII_RXD3, 93 PD30/D30/TIOC3CS/SSL3/RX_ER, 94 PD31/D31/TIOC3AS/SSL2/RX_DV, 95 VCCQ_2 (power), 96 VSS_2 (power), 97 PA12/IRQ0/TIC5U/!CS0/SSL1/TX_CLK, 98 PA11/IRQ1/TIC5V/!CS1/TX_EN/CRX0/RXD0, 99 PA10/IRQ2/TIC5W/!CS2/MII_TXD0/CTX0/TXD0, 100 PA9/IRQ3/TCLKD/!CS3/MII_TXD1/SSL0/SCK0, 101 PA8/IRQ4/TCLKC/!CS4/MII_TXD2/MISO/RXD1, 102 PA7/IRQ5/TCLKB/!CS5/MII_TXD3/MOSI/TXD1, 103 PA6/IRQ6/TCLKA/!CS6/TX_ER/RSPCK/SCK1, 104 VCCQ_3 (power), 105 VSS_3 (power), 106 VCL_2 (power), 107 USBXTAL, 108 VSS_4 (power), 109 USBEXTAL, 110 PB12/SCL/!POE1/IRQ2, 111 PB13/SDA/!POE2/IRQ3, 112 DRVCC_(VCCQ) (power), 113 USD+, 114 USD-, 115 DRVSS (power), 116 PB14/IRQ6, 117 PB15/IRQ7, 118 VBUS (power), 119 XTAL, 120 VSS_5 (power), 121 EXTAL, 122 PLLVSS (power), 123 NMI, 124 PLLVCC (power), 125 TDI, 126 TDO, 127 TCK, 128 TMS, 129 !TRST, 130 VCCQ_4 (power), 131 VSS_6 (power), 132 VCL_3 (power), 133 !RES, 134 FEW/!ASEBRKAK/!ASEBRK, 135 !ASEMD0, 136 AVREFVSS_2 (power), 137 AVSS_2 (power), 138 PF0/AN0, 139 PF1/AN1, 140 PF2/AN2, 141 PF3/AN3, 142 AVCC_2 (power), 143 AVREF_2 (power), 144 AVREF (power), 145 AVCC (power), 146 PF4/AN4, 147 PF5/AN5, 148 PF6/AN6, 149 PF7/AN7, 150 AVSS (power), 151 AVREFVSS (power), 152 MD0, 153 MD1, 154 !WDTOVF, 155 VCL (power), 156 VSS_7 (power), 157 PA0/RXD0/!CS0/CRX0/IRQ4/RX_CLK, 158 PA1/TXD0/!CS1/CTX0/IRQ5/MII_RXD0, 159 PA2/SCK0/SSL0/!CS2/TCLKD/MII_RXD1, 160 PA3/RXD1/MISO/!CS3/TCLKC/MII_RXD2, 161 PA4/TXD1/MOSI/!CS4/TCLKB/MII_RXD3, 162 PA5/SCK1/RSPCK/!CS5/TCLKA/RX_ER, 163 VCCQ_5 (power), 164 VSS_8 (power), 165 PE7/TIOC2B/!UBCTRG/RXD2/SSL1/RX_DV, 166 PE8/TIOC3A/DREQ2/SCK2/SSL2/EXOUT, 167 PE10/TIOC3C/DREQ3/TXD2/SSL3/TX_CLK, 168 PE9/TIOC3B/DACK2/TX_EN, 169 PE11/TIOC3D/DACK3/MII_TXD0, 170 PE12/TIOC4A/MII_TXD1, 171 PE13/TIOC4B/!MRES/MII_TXD2, 172 PE14/DACK0/TIOC4C/MII_TXD3, 173 PE15/DACK1/TIOC4D/!IRQOUT/!REFOUT/TX_ER, 174 VCCQ (power), 175 VSS (power), 176 PE0/TIOC0A/TIOC4AS/DREQ0/LNKSTA

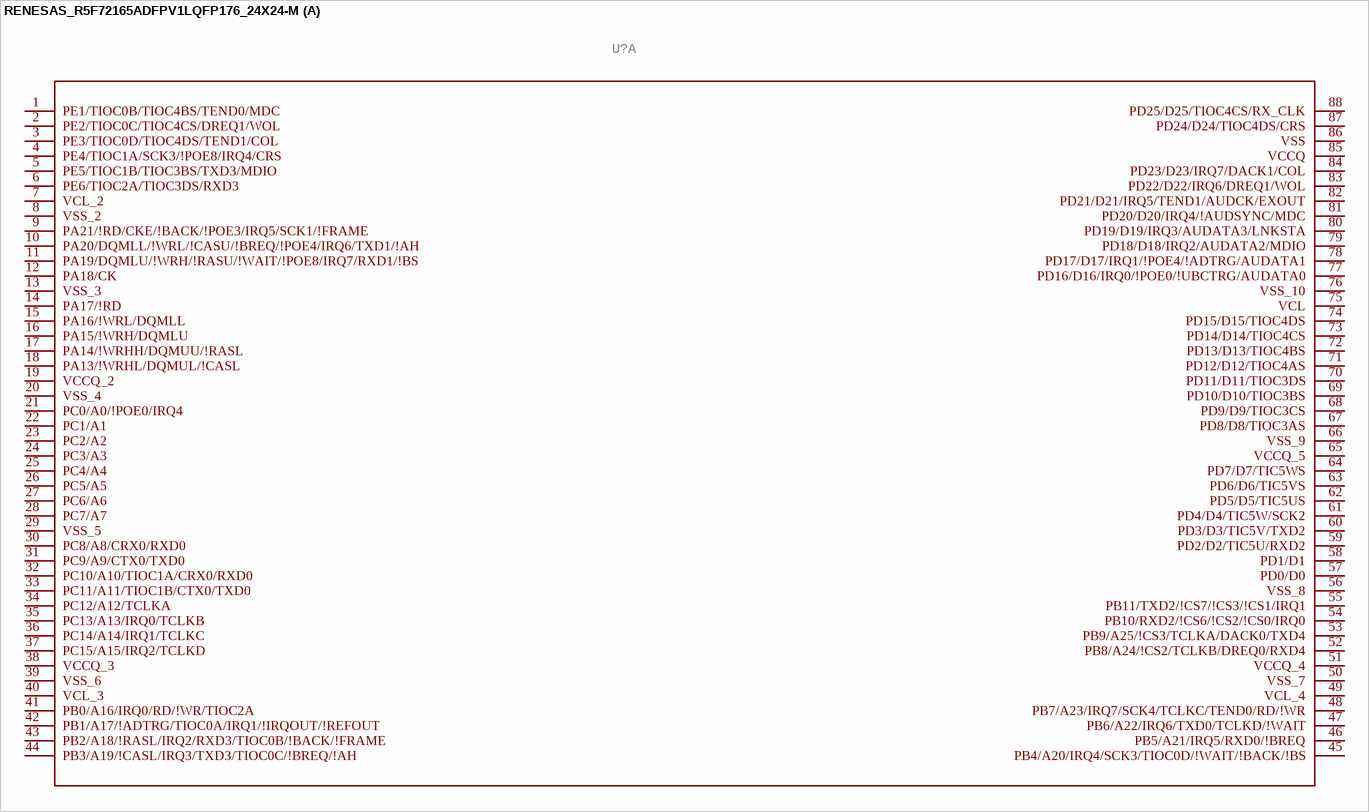
[diagram p24: symbol RENESAS_R5F72165ADFPV1LQFP176_24X24-M]

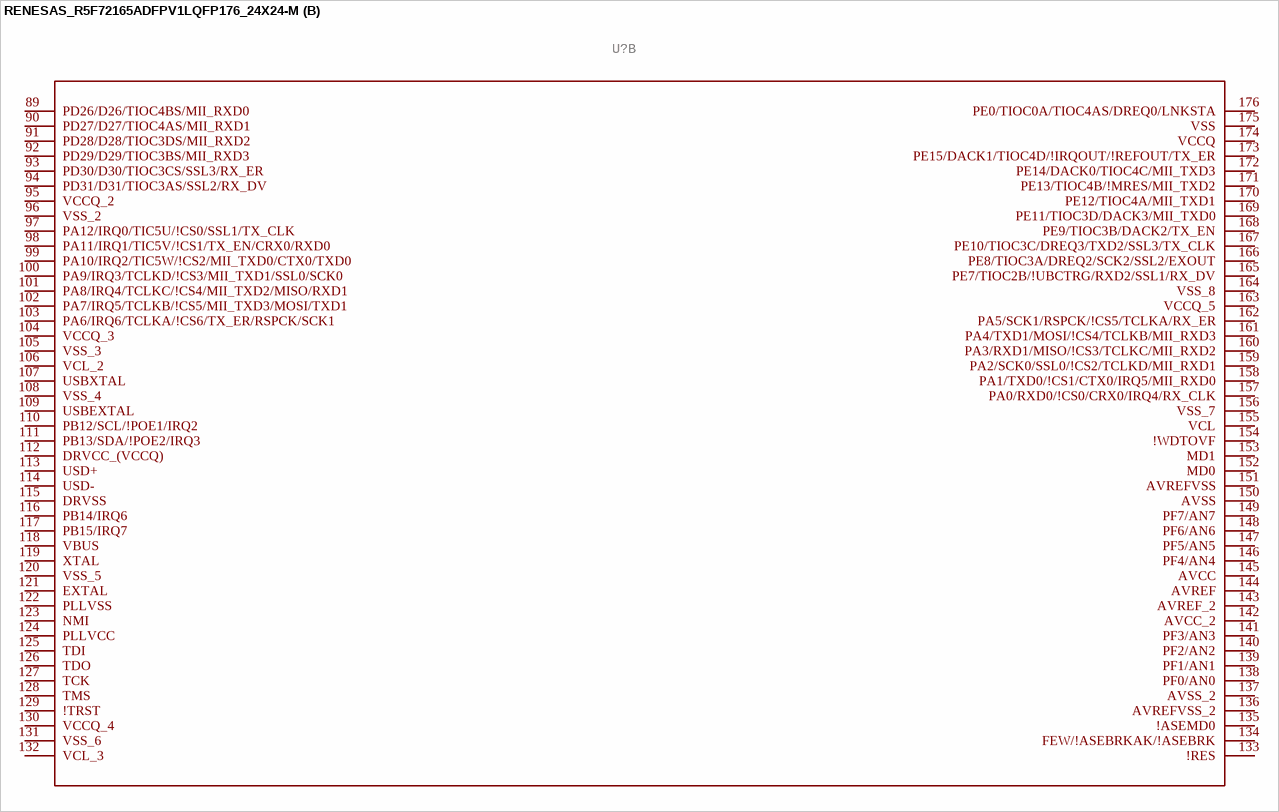
[diagram p25: symbol RENESAS_R5F72165ADFPV1LQFP176_24X24-M]

## RENESAS_R5F72165ADFPV1LQFP176_24X24-M
designator U?
MANUFACTURER_PART_NUMBER: R5F72165ADFP#V1; GateName_1: A; SymbolName_1: R5F72165ADFPV1_A; GateName_2: B; SymbolName_2: R5F72165ADFPV1_B; DeviceName: LQFP176_24X24-M; DeviceSetName: RENESAS_R5F72165ADFPV1; VENDOR: Renesas Electronics; LibraryName: 3D_MIG_Controller; Package: LQFP176_24X24-M
footprint LQFP176_24X24-M
part A pins: 1 PE1/TIOC0B/TIOC4BS/TEND0/MDC, 2 PE2/TIOC0C/TIOC4CS/DREQ1/WOL, 3 PE3/TIOC0D/TIOC4DS/TEND1/COL, 4 PE4/TIOC1A/SCK3/!POE8/IRQ4/CRS, 5 PE5/TIOC1B/TIOC3BS/TXD3/MDIO, 6 PE6/TIOC2A/TIOC3DS/RXD3, 7 VCL_2 (power), 8 VSS_2 (power), 9 PA21/!RD/CKE/!BACK/!POE3/IRQ5/SCK1/!FRAME, 10 PA20/DQMLL/!WRL/!CASU/!BREQ/!POE4/IRQ6/TXD1/!AH, 11 PA19/DQMLU/!WRH/!RASU/!WAIT/!POE8/IRQ7/RXD1/!BS, 12 PA18/CK, 13 VSS_3 (power), 14 PA17/!RD, 15 PA16/!WRL/DQMLL, 16 PA15/!WRH/DQMLU, 17 PA14/!WRHH/DQMUU/!RASL, 18 PA13/!WRHL/DQMUL/!CASL, 19 VCCQ_2 (power), 20 VSS_4 (power), 21 PC0/A0/!POE0/IRQ4, 22 PC1/A1, 23 PC2/A2, 24 PC3/A3, 25 PC4/A4, 26 PC5/A5, 27 PC6/A6, 28 PC7/A7, 29 VSS_5 (power), 30 PC8/A8/CRX0/RXD0, 31 PC9/A9/CTX0/TXD0, 32 PC10/A10/TIOC1A/CRX0/RXD0, 33 PC11/A11/TIOC1B/CTX0/TXD0, 34 PC12/A12/TCLKA, 35 PC13/A13/IRQ0/TCLKB, 36 PC14/A14/IRQ1/TCLKC, 37 PC15/A15/IRQ2/TCLKD, 38 VCCQ_3 (power), 39 VSS_6 (power), 40 VCL_3 (power), 41 PB0/A16/IRQ0/RD/!WR/TIOC2A, 42 PB1/A17/!ADTRG/TIOC0A/IRQ1/!IRQOUT/!REFOUT, 43 PB2/A18/!RASL/IRQ2/RXD3/TIOC0B/!BACK/!FRAME, 44 PB3/A19/!CASL/IRQ3/TXD3/TIOC0C/!BREQ/!AH, 45 PB4/A20/IRQ4/SCK3/TIOC0D/!WAIT/!BACK/!BS, 46 PB5/A21/IRQ5/RXD0/!BREQ, 47 PB6/A22/IRQ6/TXD0/TCLKD/!WAIT, 48 PB7/A23/IRQ7/SCK4/TCLKC/TEND0/RD/!WR, 49 VCL_4 (power), 50 VSS_7 (power), 51 VCCQ_4 (power), 52 PB8/A24/!CS2/TCLKB/DREQ0/RXD4, 53 PB9/A25/!CS3/TCLKA/DACK0/TXD4, 54 PB10/RXD2/!CS6/!CS2/!CS0/IRQ0, 55 PB11/TXD2/!CS7/!CS3/!CS1/IRQ1, 56 VSS_8 (power), 57 PD0/D0, 58 PD1/D1, 59 PD2/D2/TIC5U/RXD2, 60 PD3/D3/TIC5V/TXD2, 61 PD4/D4/TIC5W/SCK2, 62 PD5/D5/TIC5US, 63 PD6/D6/TIC5VS, 64 PD7/D7/TIC5WS, 65 VCCQ_5 (power), 66 VSS_9 (power), 67 PD8/D8/TIOC3AS, 68 PD9/D9/TIOC3CS, 69 PD10/D10/TIOC3BS, 70 PD11/D11/TIOC3DS, 71 PD12/D12/TIOC4AS, 72 PD13/D13/TIOC4BS, 73 PD14/D14/TIOC4CS, 74 PD15/D15/TIOC4DS, 75 VCL (power), 76 VSS_10 (power), 77 PD16/D16/IRQ0/!POE0/!UBCTRG/AUDATA0, 78 PD17/D17/IRQ1/!POE4/!ADTRG/AUDATA1, 79 PD18/D18/IRQ2/AUDATA2/MDIO, 80 PD19/D19/IRQ3/AUDATA3/LNKSTA, 81 PD20/D20/IRQ4/!AUDSYNC/MDC, 82 PD21/D21/IRQ5/TEND1/AUDCK/EXOUT, 83 PD22/D22/IRQ6/DREQ1/WOL, 84 PD23/D23/IRQ7/DACK1/COL, 85 VCCQ (power), 86 VSS (power), 87 PD24/D24/TIOC4DS/CRS, 88 PD25/D25/TIOC4CS/RX_CLK
part B pins: 89 PD26/D26/TIOC4BS/MII_RXD0, 90 PD27/D27/TIOC4AS/MII_RXD1, 91 PD28/D28/TIOC3DS/MII_RXD2, 92 PD29/D29/TIOC3BS/MII_RXD3, 93 PD30/D30/TIOC3CS/SSL3/RX_ER, 94 PD31/D31/TIOC3AS/SSL2/RX_DV, 95 VCCQ_2 (power), 96 VSS_2 (power), 97 PA12/IRQ0/TIC5U/!CS0/SSL1/TX_CLK, 98 PA11/IRQ1/TIC5V/!CS1/TX_EN/CRX0/RXD0, 99 PA10/IRQ2/TIC5W/!CS2/MII_TXD0/CTX0/TXD0, 100 PA9/IRQ3/TCLKD/!CS3/MII_TXD1/SSL0/SCK0, 101 PA8/IRQ4/TCLKC/!CS4/MII_TXD2/MISO/RXD1, 102 PA7/IRQ5/TCLKB/!CS5/MII_TXD3/MOSI/TXD1, 103 PA6/IRQ6/TCLKA/!CS6/TX_ER/RSPCK/SCK1, 104 VCCQ_3 (power), 105 VSS_3 (power), 106 VCL_2 (power), 107 USBXTAL, 108 VSS_4 (power), 109 USBEXTAL, 110 PB12/SCL/!POE1/IRQ2, 111 PB13/SDA/!POE2/IRQ3, 112 DRVCC_(VCCQ) (power), 113 USD+, 114 USD-, 115 DRVSS (power), 116 PB14/IRQ6, 117 PB15/IRQ7, 118 VBUS (power), 119 XTAL, 120 VSS_5 (power), 121 EXTAL, 122 PLLVSS (power), 123 NMI, 124 PLLVCC (power), 125 TDI, 126 TDO, 127 TCK, 128 TMS, 129 !TRST, 130 VCCQ_4 (power), 131 VSS_6 (power), 132 VCL_3 (power), 133 !RES, 134 FEW/!ASEBRKAK/!ASEBRK, 135 !ASEMD0, 136 AVREFVSS_2 (power), 137 AVSS_2 (power), 138 PF0/AN0, 139 PF1/AN1, 140 PF2/AN2, 141 PF3/AN3, 142 AVCC_2 (power), 143 AVREF_2 (power), 144 AVREF (power), 145 AVCC (power), 146 PF4/AN4, 147 PF5/AN5, 148 PF6/AN6, 149 PF7/AN7, 150 AVSS (power), 151 AVREFVSS (power), 152 MD0, 153 MD1, 154 !WDTOVF, 155 VCL (power), 156 VSS_7 (power), 157 PA0/RXD0/!CS0/CRX0/IRQ4/RX_CLK, 158 PA1/TXD0/!CS1/CTX0/IRQ5/MII_RXD0, 159 PA2/SCK0/SSL0/!CS2/TCLKD/MII_RXD1, 160 PA3/RXD1/MISO/!CS3/TCLKC/MII_RXD2, 161 PA4/TXD1/MOSI/!CS4/TCLKB/MII_RXD3, 162 PA5/SCK1/RSPCK/!CS5/TCLKA/RX_ER, 163 VCCQ_5 (power), 164 VSS_8 (power), 165 PE7/TIOC2B/!UBCTRG/RXD2/SSL1/RX_DV, 166 PE8/TIOC3A/DREQ2/SCK2/SSL2/EXOUT, 167 PE10/TIOC3C/DREQ3/TXD2/SSL3/TX_CLK, 168 PE9/TIOC3B/DACK2/TX_EN, 169 PE11/TIOC3D/DACK3/MII_TXD0, 170 PE12/TIOC4A/MII_TXD1, 171 PE13/TIOC4B/!MRES/MII_TXD2, 172 PE14/DACK0/TIOC4C/MII_TXD3, 173 PE15/DACK1/TIOC4D/!IRQOUT/!REFOUT/TX_ER, 174 VCCQ (power), 175 VSS (power), 176 PE0/TIOC0A/TIOC4AS/DREQ0/LNKSTA

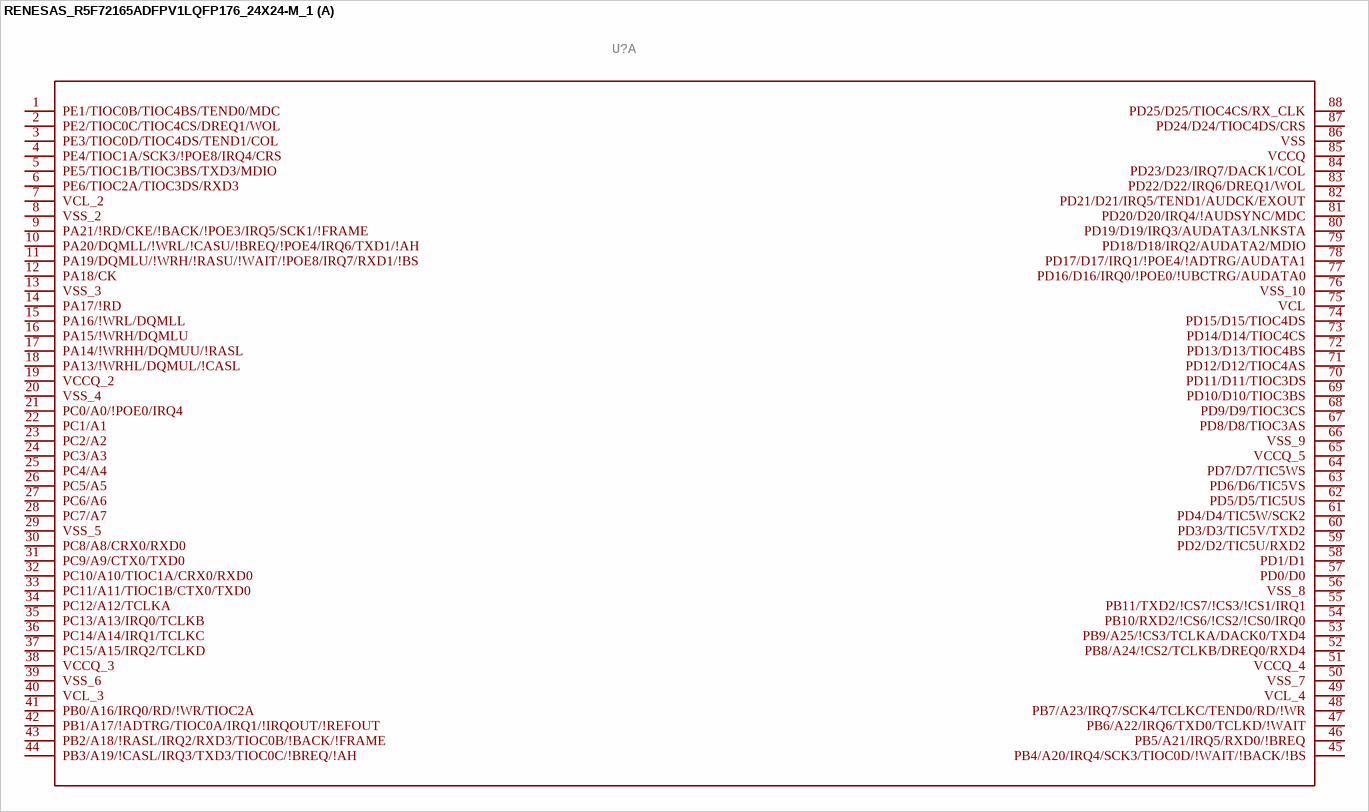
[diagram p26: symbol RENESAS_R5F72165ADFPV1LQFP176_24X24-M_1]

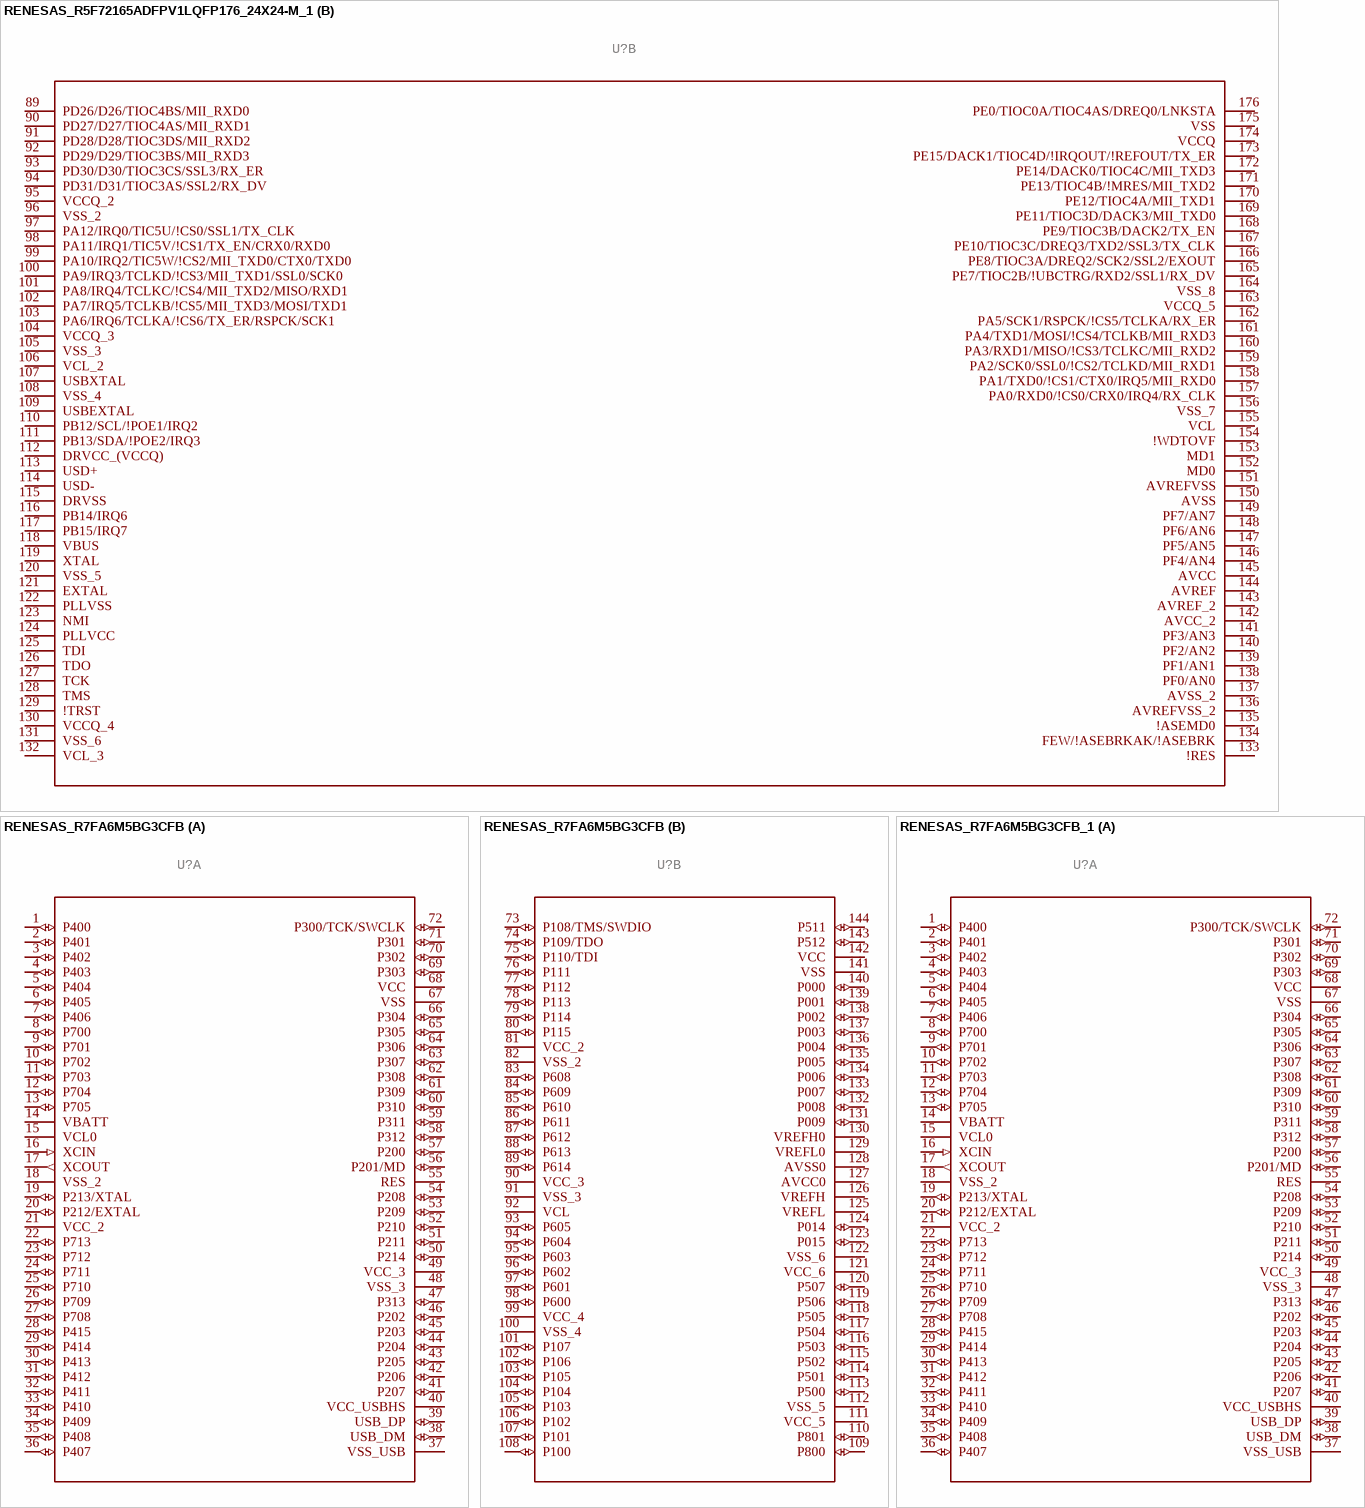
[diagram p27: symbols RENESAS_R5F72165ADFPV1LQFP176_24X24-M_1 to RENESAS_R7FA6M5BG3CFB_1]

## RENESAS_R5F72165ADFPV1LQFP176_24X24-M_1
designator U?
MANUFACTURER_PART_NUMBER: R5F72165ADFP#V1; GateName_1: A; SymbolName_1: R5F72165ADFPV1_A; GateName_2: B; SymbolName_2: R5F72165ADFPV1_B; DeviceName: LQFP176_24X24-M; DeviceSetName: RENESAS_R5F72165ADFPV1; VENDOR: Renesas Electronics; LibraryName: 3D_MIG_Controller; Package: LQFP176_24X24-M
footprint LQFP176_24X24-M
part A pins: 1 PE1/TIOC0B/TIOC4BS/TEND0/MDC, 2 PE2/TIOC0C/TIOC4CS/DREQ1/WOL, 3 PE3/TIOC0D/TIOC4DS/TEND1/COL, 4 PE4/TIOC1A/SCK3/!POE8/IRQ4/CRS, 5 PE5/TIOC1B/TIOC3BS/TXD3/MDIO, 6 PE6/TIOC2A/TIOC3DS/RXD3, 7 VCL_2 (power), 8 VSS_2 (power), 9 PA21/!RD/CKE/!BACK/!POE3/IRQ5/SCK1/!FRAME, 10 PA20/DQMLL/!WRL/!CASU/!BREQ/!POE4/IRQ6/TXD1/!AH, 11 PA19/DQMLU/!WRH/!RASU/!WAIT/!POE8/IRQ7/RXD1/!BS, 12 PA18/CK, 13 VSS_3 (power), 14 PA17/!RD, 15 PA16/!WRL/DQMLL, 16 PA15/!WRH/DQMLU, 17 PA14/!WRHH/DQMUU/!RASL, 18 PA13/!WRHL/DQMUL/!CASL, 19 VCCQ_2 (power), 20 VSS_4 (power), 21 PC0/A0/!POE0/IRQ4, 22 PC1/A1, 23 PC2/A2, 24 PC3/A3, 25 PC4/A4, 26 PC5/A5, 27 PC6/A6, 28 PC7/A7, 29 VSS_5 (power), 30 PC8/A8/CRX0/RXD0, 31 PC9/A9/CTX0/TXD0, 32 PC10/A10/TIOC1A/CRX0/RXD0, 33 PC11/A11/TIOC1B/CTX0/TXD0, 34 PC12/A12/TCLKA, 35 PC13/A13/IRQ0/TCLKB, 36 PC14/A14/IRQ1/TCLKC, 37 PC15/A15/IRQ2/TCLKD, 38 VCCQ_3 (power), 39 VSS_6 (power), 40 VCL_3 (power), 41 PB0/A16/IRQ0/RD/!WR/TIOC2A, 42 PB1/A17/!ADTRG/TIOC0A/IRQ1/!IRQOUT/!REFOUT, 43 PB2/A18/!RASL/IRQ2/RXD3/TIOC0B/!BACK/!FRAME, 44 PB3/A19/!CASL/IRQ3/TXD3/TIOC0C/!BREQ/!AH, 45 PB4/A20/IRQ4/SCK3/TIOC0D/!WAIT/!BACK/!BS, 46 PB5/A21/IRQ5/RXD0/!BREQ, 47 PB6/A22/IRQ6/TXD0/TCLKD/!WAIT, 48 PB7/A23/IRQ7/SCK4/TCLKC/TEND0/RD/!WR, 49 VCL_4 (power), 50 VSS_7 (power), 51 VCCQ_4 (power), 52 PB8/A24/!CS2/TCLKB/DREQ0/RXD4, 53 PB9/A25/!CS3/TCLKA/DACK0/TXD4, 54 PB10/RXD2/!CS6/!CS2/!CS0/IRQ0, 55 PB11/TXD2/!CS7/!CS3/!CS1/IRQ1, 56 VSS_8 (power), 57 PD0/D0, 58 PD1/D1, 59 PD2/D2/TIC5U/RXD2, 60 PD3/D3/TIC5V/TXD2, 61 PD4/D4/TIC5W/SCK2, 62 PD5/D5/TIC5US, 63 PD6/D6/TIC5VS, 64 PD7/D7/TIC5WS, 65 VCCQ_5 (power), 66 VSS_9 (power), 67 PD8/D8/TIOC3AS, 68 PD9/D9/TIOC3CS, 69 PD10/D10/TIOC3BS, 70 PD11/D11/TIOC3DS, 71 PD12/D12/TIOC4AS, 72 PD13/D13/TIOC4BS, 73 PD14/D14/TIOC4CS, 74 PD15/D15/TIOC4DS, 75 VCL (power), 76 VSS_10 (power), 77 PD16/D16/IRQ0/!POE0/!UBCTRG/AUDATA0, 78 PD17/D17/IRQ1/!POE4/!ADTRG/AUDATA1, 79 PD18/D18/IRQ2/AUDATA2/MDIO, 80 PD19/D19/IRQ3/AUDATA3/LNKSTA, 81 PD20/D20/IRQ4/!AUDSYNC/MDC, 82 PD21/D21/IRQ5/TEND1/AUDCK/EXOUT, 83 PD22/D22/IRQ6/DREQ1/WOL, 84 PD23/D23/IRQ7/DACK1/COL, 85 VCCQ (power), 86 VSS (power), 87 PD24/D24/TIOC4DS/CRS, 88 PD25/D25/TIOC4CS/RX_CLK
part B pins: 89 PD26/D26/TIOC4BS/MII_RXD0, 90 PD27/D27/TIOC4AS/MII_RXD1, 91 PD28/D28/TIOC3DS/MII_RXD2, 92 PD29/D29/TIOC3BS/MII_RXD3, 93 PD30/D30/TIOC3CS/SSL3/RX_ER, 94 PD31/D31/TIOC3AS/SSL2/RX_DV, 95 VCCQ_2 (power), 96 VSS_2 (power), 97 PA12/IRQ0/TIC5U/!CS0/SSL1/TX_CLK, 98 PA11/IRQ1/TIC5V/!CS1/TX_EN/CRX0/RXD0, 99 PA10/IRQ2/TIC5W/!CS2/MII_TXD0/CTX0/TXD0, 100 PA9/IRQ3/TCLKD/!CS3/MII_TXD1/SSL0/SCK0, 101 PA8/IRQ4/TCLKC/!CS4/MII_TXD2/MISO/RXD1, 102 PA7/IRQ5/TCLKB/!CS5/MII_TXD3/MOSI/TXD1, 103 PA6/IRQ6/TCLKA/!CS6/TX_ER/RSPCK/SCK1, 104 VCCQ_3 (power), 105 VSS_3 (power), 106 VCL_2 (power), 107 USBXTAL, 108 VSS_4 (power), 109 USBEXTAL, 110 PB12/SCL/!POE1/IRQ2, 111 PB13/SDA/!POE2/IRQ3, 112 DRVCC_(VCCQ) (power), 113 USD+, 114 USD-, 115 DRVSS (power), 116 PB14/IRQ6, 117 PB15/IRQ7, 118 VBUS (power), 119 XTAL, 120 VSS_5 (power), 121 EXTAL, 122 PLLVSS (power), 123 NMI, 124 PLLVCC (power), 125 TDI, 126 TDO, 127 TCK, 128 TMS, 129 !TRST, 130 VCCQ_4 (power), 131 VSS_6 (power), 132 VCL_3 (power), 133 !RES, 134 FEW/!ASEBRKAK/!ASEBRK, 135 !ASEMD0, 136 AVREFVSS_2 (power), 137 AVSS_2 (power), 138 PF0/AN0, 139 PF1/AN1, 140 PF2/AN2, 141 PF3/AN3, 142 AVCC_2 (power), 143 AVREF_2 (power), 144 AVREF (power), 145 AVCC (power), 146 PF4/AN4, 147 PF5/AN5, 148 PF6/AN6, 149 PF7/AN7, 150 AVSS (power), 151 AVREFVSS (power), 152 MD0, 153 MD1, 154 !WDTOVF, 155 VCL (power), 156 VSS_7 (power), 157 PA0/RXD0/!CS0/CRX0/IRQ4/RX_CLK, 158 PA1/TXD0/!CS1/CTX0/IRQ5/MII_RXD0, 159 PA2/SCK0/SSL0/!CS2/TCLKD/MII_RXD1, 160 PA3/RXD1/MISO/!CS3/TCLKC/MII_RXD2, 161 PA4/TXD1/MOSI/!CS4/TCLKB/MII_RXD3, 162 PA5/SCK1/RSPCK/!CS5/TCLKA/RX_ER, 163 VCCQ_5 (power), 164 VSS_8 (power), 165 PE7/TIOC2B/!UBCTRG/RXD2/SSL1/RX_DV, 166 PE8/TIOC3A/DREQ2/SCK2/SSL2/EXOUT, 167 PE10/TIOC3C/DREQ3/TXD2/SSL3/TX_CLK, 168 PE9/TIOC3B/DACK2/TX_EN, 169 PE11/TIOC3D/DACK3/MII_TXD0, 170 PE12/TIOC4A/MII_TXD1, 171 PE13/TIOC4B/!MRES/MII_TXD2, 172 PE14/DACK0/TIOC4C/MII_TXD3, 173 PE15/DACK1/TIOC4D/!IRQOUT/!REFOUT/TX_ER, 174 VCCQ (power), 175 VSS (power), 176 PE0/TIOC0A/TIOC4AS/DREQ0/LNKSTA

## RENESAS_R7FA6M5BG3CFB
designator U?
MANUFACTURER_PART_NUMBER: R7FA6M5BG3CFB; MFR_NAME: Renesas Electronics; GateName_1: A; SymbolName_1: R7FA6M5BG3CFB_A; GateName_2: B; SymbolName_2: R7FA6M5BG3CFB_B; DeviceSetName: RENESAS_R7FA6M5BG3CFB; LibraryName: 3D_MIG_Controller; Package: LQFP_144_20X20_REN; COPYRIGHT: Copyright (C) 2022 Ultra Librarian. All rights reserved.
footprint LQFP_144_20X20_REN
part A pins: 1 P400 (io), 2 P401 (io), 3 P402 (io), 4 P403 (io), 5 P404 (io), 6 P405 (io), 7 P406 (io), 8 P700 (io), 9 P701 (io), 10 P702 (io), 11 P703 (io), 12 P704 (io), 13 P705 (io), 14 VBATT (power), 15 VCL0 (power), 16 XCIN (in), 17 XCOUT (out), 18 VSS_2 (power), 19 P213/XTAL (io), 20 P212/EXTAL (io), 21 VCC_2 (power), 22 P713 (io), 23 P712 (io), 24 P711 (io), 25 P710 (io), 26 P709 (io), 27 P708 (io), 28 P415 (io), 29 P414 (io), 30 P413 (io), 31 P412 (io), 32 P411 (io), 33 P410 (io), 34 P409 (io), 35 P408 (io), 36 P407 (io), 37 VSS_USB (power), 38 USB_DM (io), 39 USB_DP (io), 40 VCC_USBHS (power), 41 P207 (io), 42 P206 (io), 43 P205 (io), 44 P204 (io), 45 P203 (io), 46 P202 (io), 47 P313 (io), 48 VSS_3 (power), 49 VCC_3 (power), 50 P214 (io), 51 P211 (io), 52 P210 (io), 53 P209 (io), 54 P208 (io), 55 RES, 56 P201/MD (io), 57 P200 (io), 58 P312 (io), 59 P311 (io), 60 P310 (io), 61 P309 (io), 62 P308 (io), 63 P307 (io), 64 P306 (io), 65 P305 (io), 66 P304 (io), 67 VSS (power), 68 VCC (power), 69 P303 (io), 70 P302 (io), 71 P301 (io), 72 P300/TCK/SWCLK (io)
part B pins: 73 P108/TMS/SWDIO (io), 74 P109/TDO (io), 75 P110/TDI (io), 76 P111 (io), 77 P112 (io), 78 P113 (io), 79 P114 (io), 80 P115 (io), 81 VCC_2 (power), 82 VSS_2 (power), 83 P608 (io), 84 P609 (io), 85 P610 (io), 86 P611 (io), 87 P612 (io), 88 P613 (io), 89 P614 (io), 90 VCC_3 (power), 91 VSS_3 (power), 92 VCL (power), 93 P605 (io), 94 P604 (io), 95 P603 (io), 96 P602 (io), 97 P601 (io), 98 P600 (io), 99 VCC_4 (power), 100 VSS_4 (power), 101 P107 (io), 102 P106 (io), 103 P105 (io), 104 P104 (io), 105 P103 (io), 106 P102 (io), 107 P101 (io), 108 P100 (io), 109 P800 (io), 110 P801 (io), 111 VCC_5 (power), 112 VSS_5 (power), 113 P500 (io), 114 P501 (io), 115 P502 (io), 116 P503 (io), 117 P504 (io), 118 P505 (io), 119 P506 (io), 120 P507 (io), 121 VCC_6 (power), 122 VSS_6 (power), 123 P015 (io), 124 P014 (io), 125 VREFL (power), 126 VREFH (power), 127 AVCC0 (power), 128 AVSS0 (power), 129 VREFL0 (power), 130 VREFH0 (power), 131 P009 (io), 132 P008 (io), 133 P007 (io), 134 P006 (io), 135 P005 (io), 136 P004 (io), 137 P003 (io), 138 P002 (io), 139 P001 (io), 140 P000 (io), 141 VSS (power), 142 VCC (power), 143 P512 (io), 144 P511 (io)

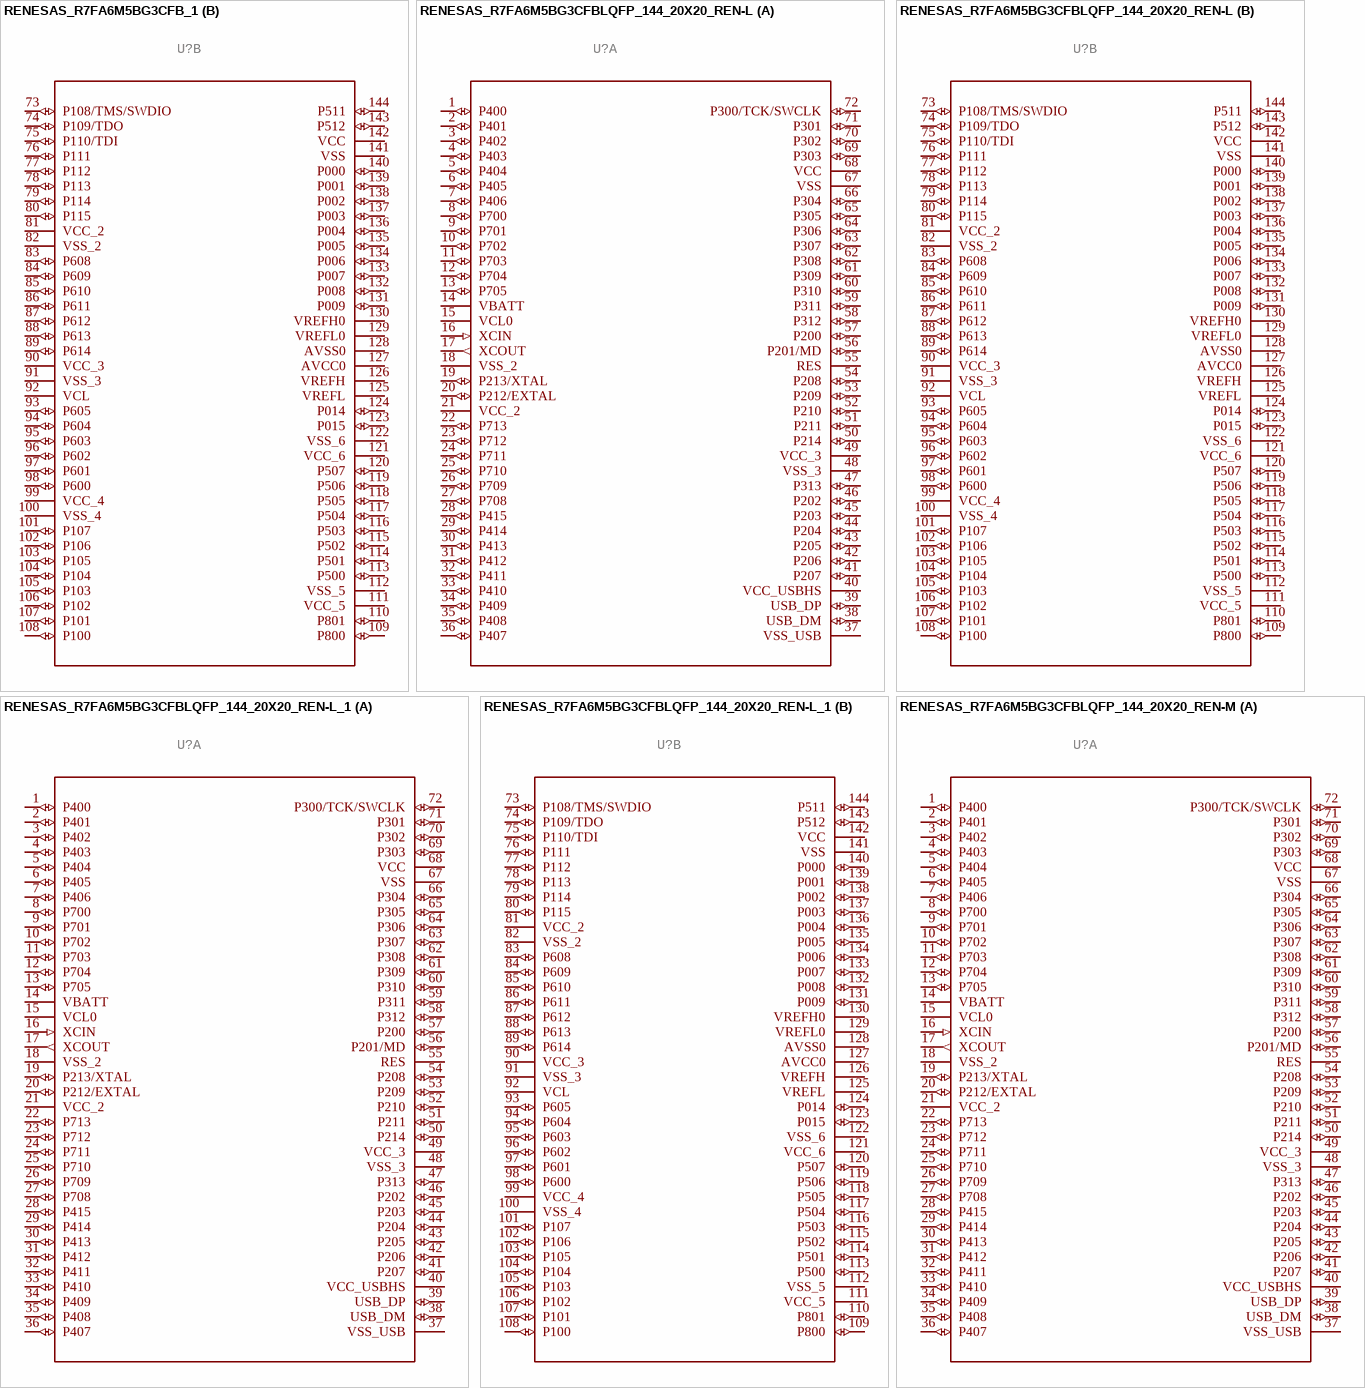
[diagram p28: symbols RENESAS_R7FA6M5BG3CFB_1 to RENESAS_R7FA6M5BG3CFBLQFP_144_20X20_REN-M]

## RENESAS_R7FA6M5BG3CFB_1
designator U?
MANUFACTURER_PART_NUMBER: R7FA6M5BG3CFB; MFR_NAME: Renesas Electronics; GateName_1: A; SymbolName_1: R7FA6M5BG3CFB_A; GateName_2: B; SymbolName_2: R7FA6M5BG3CFB_B; DeviceSetName: RENESAS_R7FA6M5BG3CFB; LibraryName: 3D_MIG_Controller; Package: LQFP_144_20X20_REN; COPYRIGHT: Copyright (C) 2022 Ultra Librarian. All rights reserved.
footprint LQFP_144_20X20_REN
part A pins: 1 P400 (io), 2 P401 (io), 3 P402 (io), 4 P403 (io), 5 P404 (io), 6 P405 (io), 7 P406 (io), 8 P700 (io), 9 P701 (io), 10 P702 (io), 11 P703 (io), 12 P704 (io), 13 P705 (io), 14 VBATT (power), 15 VCL0 (power), 16 XCIN (in), 17 XCOUT (out), 18 VSS_2 (power), 19 P213/XTAL (io), 20 P212/EXTAL (io), 21 VCC_2 (power), 22 P713 (io), 23 P712 (io), 24 P711 (io), 25 P710 (io), 26 P709 (io), 27 P708 (io), 28 P415 (io), 29 P414 (io), 30 P413 (io), 31 P412 (io), 32 P411 (io), 33 P410 (io), 34 P409 (io), 35 P408 (io), 36 P407 (io), 37 VSS_USB (power), 38 USB_DM (io), 39 USB_DP (io), 40 VCC_USBHS (power), 41 P207 (io), 42 P206 (io), 43 P205 (io), 44 P204 (io), 45 P203 (io), 46 P202 (io), 47 P313 (io), 48 VSS_3 (power), 49 VCC_3 (power), 50 P214 (io), 51 P211 (io), 52 P210 (io), 53 P209 (io), 54 P208 (io), 55 RES, 56 P201/MD (io), 57 P200 (io), 58 P312 (io), 59 P311 (io), 60 P310 (io), 61 P309 (io), 62 P308 (io), 63 P307 (io), 64 P306 (io), 65 P305 (io), 66 P304 (io), 67 VSS (power), 68 VCC (power), 69 P303 (io), 70 P302 (io), 71 P301 (io), 72 P300/TCK/SWCLK (io)
part B pins: 73 P108/TMS/SWDIO (io), 74 P109/TDO (io), 75 P110/TDI (io), 76 P111 (io), 77 P112 (io), 78 P113 (io), 79 P114 (io), 80 P115 (io), 81 VCC_2 (power), 82 VSS_2 (power), 83 P608 (io), 84 P609 (io), 85 P610 (io), 86 P611 (io), 87 P612 (io), 88 P613 (io), 89 P614 (io), 90 VCC_3 (power), 91 VSS_3 (power), 92 VCL (power), 93 P605 (io), 94 P604 (io), 95 P603 (io), 96 P602 (io), 97 P601 (io), 98 P600 (io), 99 VCC_4 (power), 100 VSS_4 (power), 101 P107 (io), 102 P106 (io), 103 P105 (io), 104 P104 (io), 105 P103 (io), 106 P102 (io), 107 P101 (io), 108 P100 (io), 109 P800 (io), 110 P801 (io), 111 VCC_5 (power), 112 VSS_5 (power), 113 P500 (io), 114 P501 (io), 115 P502 (io), 116 P503 (io), 117 P504 (io), 118 P505 (io), 119 P506 (io), 120 P507 (io), 121 VCC_6 (power), 122 VSS_6 (power), 123 P015 (io), 124 P014 (io), 125 VREFL (power), 126 VREFH (power), 127 AVCC0 (power), 128 AVSS0 (power), 129 VREFL0 (power), 130 VREFH0 (power), 131 P009 (io), 132 P008 (io), 133 P007 (io), 134 P006 (io), 135 P005 (io), 136 P004 (io), 137 P003 (io), 138 P002 (io), 139 P001 (io), 140 P000 (io), 141 VSS (power), 142 VCC (power), 143 P512 (io), 144 P511 (io)

## RENESAS_R7FA6M5BG3CFBLQFP_144_20X20_REN-L
designator U?
MANUFACTURER_PART_NUMBER: R7FA6M5BG3CFB; MFR_NAME: Renesas Electronics; GateName_1: A; SymbolName_1: R7FA6M5BG3CFB_A; GateName_2: B; SymbolName_2: R7FA6M5BG3CFB_B; DeviceName: LQFP_144_20X20_REN-L; DeviceSetName: RENESAS_R7FA6M5BG3CFB; LibraryName: 3D_MIG_Controller; Package: LQFP_144_20X20_REN-L; COPYRIGHT: Copyright (C) 2022 Ultra Librarian. All rights reserved.
footprint LQFP_144_20X20_REN-L
part A pins: 1 P400 (io), 2 P401 (io), 3 P402 (io), 4 P403 (io), 5 P404 (io), 6 P405 (io), 7 P406 (io), 8 P700 (io), 9 P701 (io), 10 P702 (io), 11 P703 (io), 12 P704 (io), 13 P705 (io), 14 VBATT (power), 15 VCL0 (power), 16 XCIN (in), 17 XCOUT (out), 18 VSS_2 (power), 19 P213/XTAL (io), 20 P212/EXTAL (io), 21 VCC_2 (power), 22 P713 (io), 23 P712 (io), 24 P711 (io), 25 P710 (io), 26 P709 (io), 27 P708 (io), 28 P415 (io), 29 P414 (io), 30 P413 (io), 31 P412 (io), 32 P411 (io), 33 P410 (io), 34 P409 (io), 35 P408 (io), 36 P407 (io), 37 VSS_USB (power), 38 USB_DM (io), 39 USB_DP (io), 40 VCC_USBHS (power), 41 P207 (io), 42 P206 (io), 43 P205 (io), 44 P204 (io), 45 P203 (io), 46 P202 (io), 47 P313 (io), 48 VSS_3 (power), 49 VCC_3 (power), 50 P214 (io), 51 P211 (io), 52 P210 (io), 53 P209 (io), 54 P208 (io), 55 RES, 56 P201/MD (io), 57 P200 (io), 58 P312 (io), 59 P311 (io), 60 P310 (io), 61 P309 (io), 62 P308 (io), 63 P307 (io), 64 P306 (io), 65 P305 (io), 66 P304 (io), 67 VSS (power), 68 VCC (power), 69 P303 (io), 70 P302 (io), 71 P301 (io), 72 P300/TCK/SWCLK (io)
part B pins: 73 P108/TMS/SWDIO (io), 74 P109/TDO (io), 75 P110/TDI (io), 76 P111 (io), 77 P112 (io), 78 P113 (io), 79 P114 (io), 80 P115 (io), 81 VCC_2 (power), 82 VSS_2 (power), 83 P608 (io), 84 P609 (io), 85 P610 (io), 86 P611 (io), 87 P612 (io), 88 P613 (io), 89 P614 (io), 90 VCC_3 (power), 91 VSS_3 (power), 92 VCL (power), 93 P605 (io), 94 P604 (io), 95 P603 (io), 96 P602 (io), 97 P601 (io), 98 P600 (io), 99 VCC_4 (power), 100 VSS_4 (power), 101 P107 (io), 102 P106 (io), 103 P105 (io), 104 P104 (io), 105 P103 (io), 106 P102 (io), 107 P101 (io), 108 P100 (io), 109 P800 (io), 110 P801 (io), 111 VCC_5 (power), 112 VSS_5 (power), 113 P500 (io), 114 P501 (io), 115 P502 (io), 116 P503 (io), 117 P504 (io), 118 P505 (io), 119 P506 (io), 120 P507 (io), 121 VCC_6 (power), 122 VSS_6 (power), 123 P015 (io), 124 P014 (io), 125 VREFL (power), 126 VREFH (power), 127 AVCC0 (power), 128 AVSS0 (power), 129 VREFL0 (power), 130 VREFH0 (power), 131 P009 (io), 132 P008 (io), 133 P007 (io), 134 P006 (io), 135 P005 (io), 136 P004 (io), 137 P003 (io), 138 P002 (io), 139 P001 (io), 140 P000 (io), 141 VSS (power), 142 VCC (power), 143 P512 (io), 144 P511 (io)

## RENESAS_R7FA6M5BG3CFBLQFP_144_20X20_REN-L_1
designator U?
MANUFACTURER_PART_NUMBER: R7FA6M5BG3CFB; MFR_NAME: Renesas Electronics; GateName_1: A; SymbolName_1: R7FA6M5BG3CFB_A; GateName_2: B; SymbolName_2: R7FA6M5BG3CFB_B; DeviceName: LQFP_144_20X20_REN-L; DeviceSetName: RENESAS_R7FA6M5BG3CFB; LibraryName: 3D_MIG_Controller; Package: LQFP_144_20X20_REN-L; COPYRIGHT: Copyright (C) 2022 Ultra Librarian. All rights reserved.
footprint LQFP_144_20X20_REN-L
part A pins: 1 P400 (io), 2 P401 (io), 3 P402 (io), 4 P403 (io), 5 P404 (io), 6 P405 (io), 7 P406 (io), 8 P700 (io), 9 P701 (io), 10 P702 (io), 11 P703 (io), 12 P704 (io), 13 P705 (io), 14 VBATT (power), 15 VCL0 (power), 16 XCIN (in), 17 XCOUT (out), 18 VSS_2 (power), 19 P213/XTAL (io), 20 P212/EXTAL (io), 21 VCC_2 (power), 22 P713 (io), 23 P712 (io), 24 P711 (io), 25 P710 (io), 26 P709 (io), 27 P708 (io), 28 P415 (io), 29 P414 (io), 30 P413 (io), 31 P412 (io), 32 P411 (io), 33 P410 (io), 34 P409 (io), 35 P408 (io), 36 P407 (io), 37 VSS_USB (power), 38 USB_DM (io), 39 USB_DP (io), 40 VCC_USBHS (power), 41 P207 (io), 42 P206 (io), 43 P205 (io), 44 P204 (io), 45 P203 (io), 46 P202 (io), 47 P313 (io), 48 VSS_3 (power), 49 VCC_3 (power), 50 P214 (io), 51 P211 (io), 52 P210 (io), 53 P209 (io), 54 P208 (io), 55 RES, 56 P201/MD (io), 57 P200 (io), 58 P312 (io), 59 P311 (io), 60 P310 (io), 61 P309 (io), 62 P308 (io), 63 P307 (io), 64 P306 (io), 65 P305 (io), 66 P304 (io), 67 VSS (power), 68 VCC (power), 69 P303 (io), 70 P302 (io), 71 P301 (io), 72 P300/TCK/SWCLK (io)
part B pins: 73 P108/TMS/SWDIO (io), 74 P109/TDO (io), 75 P110/TDI (io), 76 P111 (io), 77 P112 (io), 78 P113 (io), 79 P114 (io), 80 P115 (io), 81 VCC_2 (power), 82 VSS_2 (power), 83 P608 (io), 84 P609 (io), 85 P610 (io), 86 P611 (io), 87 P612 (io), 88 P613 (io), 89 P614 (io), 90 VCC_3 (power), 91 VSS_3 (power), 92 VCL (power), 93 P605 (io), 94 P604 (io), 95 P603 (io), 96 P602 (io), 97 P601 (io), 98 P600 (io), 99 VCC_4 (power), 100 VSS_4 (power), 101 P107 (io), 102 P106 (io), 103 P105 (io), 104 P104 (io), 105 P103 (io), 106 P102 (io), 107 P101 (io), 108 P100 (io), 109 P800 (io), 110 P801 (io), 111 VCC_5 (power), 112 VSS_5 (power), 113 P500 (io), 114 P501 (io), 115 P502 (io), 116 P503 (io), 117 P504 (io), 118 P505 (io), 119 P506 (io), 120 P507 (io), 121 VCC_6 (power), 122 VSS_6 (power), 123 P015 (io), 124 P014 (io), 125 VREFL (power), 126 VREFH (power), 127 AVCC0 (power), 128 AVSS0 (power), 129 VREFL0 (power), 130 VREFH0 (power), 131 P009 (io), 132 P008 (io), 133 P007 (io), 134 P006 (io), 135 P005 (io), 136 P004 (io), 137 P003 (io), 138 P002 (io), 139 P001 (io), 140 P000 (io), 141 VSS (power), 142 VCC (power), 143 P512 (io), 144 P511 (io)

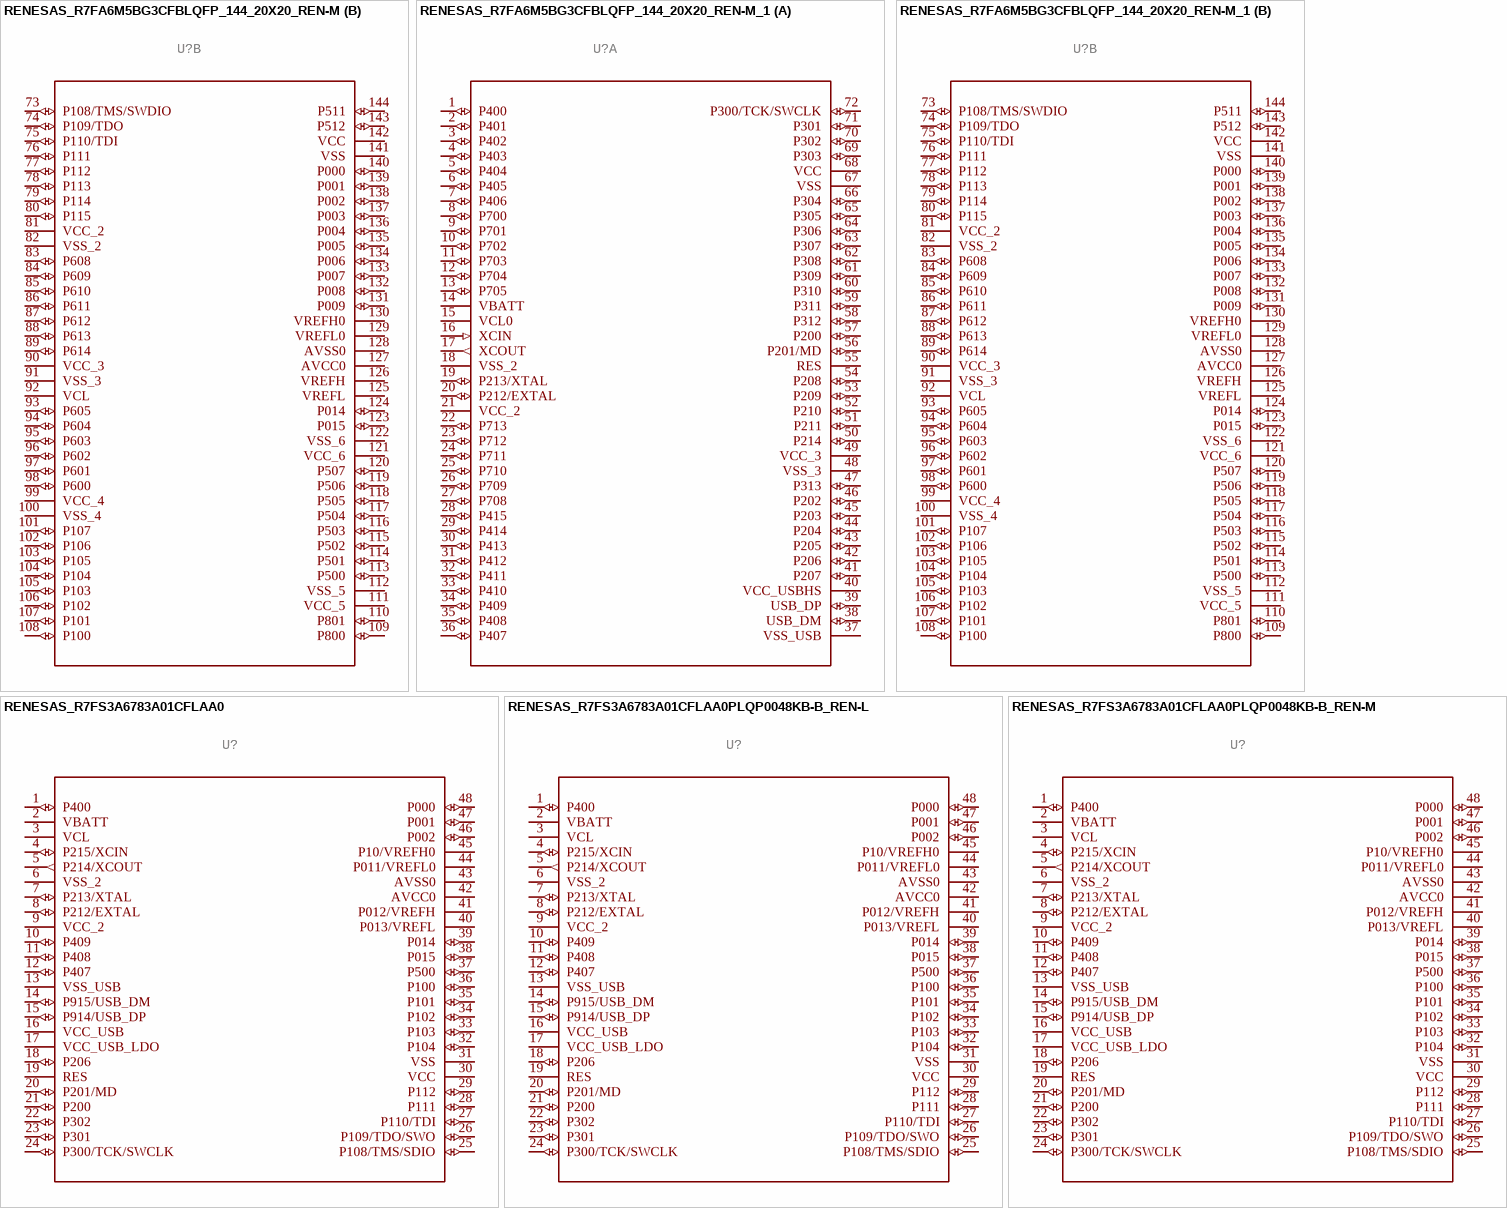
[diagram p29: symbols RENESAS_R7FA6M5BG3CFBLQFP_144_20X20_REN-M to RENESAS_R7FS3A6783A01CFLAA0PLQP0048KB-B_REN-M]

## RENESAS_R7FA6M5BG3CFBLQFP_144_20X20_REN-M
designator U?
MANUFACTURER_PART_NUMBER: R7FA6M5BG3CFB; MFR_NAME: Renesas Electronics; GateName_1: A; SymbolName_1: R7FA6M5BG3CFB_A; GateName_2: B; SymbolName_2: R7FA6M5BG3CFB_B; DeviceName: LQFP_144_20X20_REN-M; DeviceSetName: RENESAS_R7FA6M5BG3CFB; LibraryName: 3D_MIG_Controller; Package: LQFP_144_20X20_REN-M; COPYRIGHT: Copyright (C) 2022 Ultra Librarian. All rights reserved.
footprint LQFP_144_20X20_REN-M
part A pins: 1 P400 (io), 2 P401 (io), 3 P402 (io), 4 P403 (io), 5 P404 (io), 6 P405 (io), 7 P406 (io), 8 P700 (io), 9 P701 (io), 10 P702 (io), 11 P703 (io), 12 P704 (io), 13 P705 (io), 14 VBATT (power), 15 VCL0 (power), 16 XCIN (in), 17 XCOUT (out), 18 VSS_2 (power), 19 P213/XTAL (io), 20 P212/EXTAL (io), 21 VCC_2 (power), 22 P713 (io), 23 P712 (io), 24 P711 (io), 25 P710 (io), 26 P709 (io), 27 P708 (io), 28 P415 (io), 29 P414 (io), 30 P413 (io), 31 P412 (io), 32 P411 (io), 33 P410 (io), 34 P409 (io), 35 P408 (io), 36 P407 (io), 37 VSS_USB (power), 38 USB_DM (io), 39 USB_DP (io), 40 VCC_USBHS (power), 41 P207 (io), 42 P206 (io), 43 P205 (io), 44 P204 (io), 45 P203 (io), 46 P202 (io), 47 P313 (io), 48 VSS_3 (power), 49 VCC_3 (power), 50 P214 (io), 51 P211 (io), 52 P210 (io), 53 P209 (io), 54 P208 (io), 55 RES, 56 P201/MD (io), 57 P200 (io), 58 P312 (io), 59 P311 (io), 60 P310 (io), 61 P309 (io), 62 P308 (io), 63 P307 (io), 64 P306 (io), 65 P305 (io), 66 P304 (io), 67 VSS (power), 68 VCC (power), 69 P303 (io), 70 P302 (io), 71 P301 (io), 72 P300/TCK/SWCLK (io)
part B pins: 73 P108/TMS/SWDIO (io), 74 P109/TDO (io), 75 P110/TDI (io), 76 P111 (io), 77 P112 (io), 78 P113 (io), 79 P114 (io), 80 P115 (io), 81 VCC_2 (power), 82 VSS_2 (power), 83 P608 (io), 84 P609 (io), 85 P610 (io), 86 P611 (io), 87 P612 (io), 88 P613 (io), 89 P614 (io), 90 VCC_3 (power), 91 VSS_3 (power), 92 VCL (power), 93 P605 (io), 94 P604 (io), 95 P603 (io), 96 P602 (io), 97 P601 (io), 98 P600 (io), 99 VCC_4 (power), 100 VSS_4 (power), 101 P107 (io), 102 P106 (io), 103 P105 (io), 104 P104 (io), 105 P103 (io), 106 P102 (io), 107 P101 (io), 108 P100 (io), 109 P800 (io), 110 P801 (io), 111 VCC_5 (power), 112 VSS_5 (power), 113 P500 (io), 114 P501 (io), 115 P502 (io), 116 P503 (io), 117 P504 (io), 118 P505 (io), 119 P506 (io), 120 P507 (io), 121 VCC_6 (power), 122 VSS_6 (power), 123 P015 (io), 124 P014 (io), 125 VREFL (power), 126 VREFH (power), 127 AVCC0 (power), 128 AVSS0 (power), 129 VREFL0 (power), 130 VREFH0 (power), 131 P009 (io), 132 P008 (io), 133 P007 (io), 134 P006 (io), 135 P005 (io), 136 P004 (io), 137 P003 (io), 138 P002 (io), 139 P001 (io), 140 P000 (io), 141 VSS (power), 142 VCC (power), 143 P512 (io), 144 P511 (io)